# Altium integrated library memory-idt.IntLib: 301 symbols (part 2 of 3)
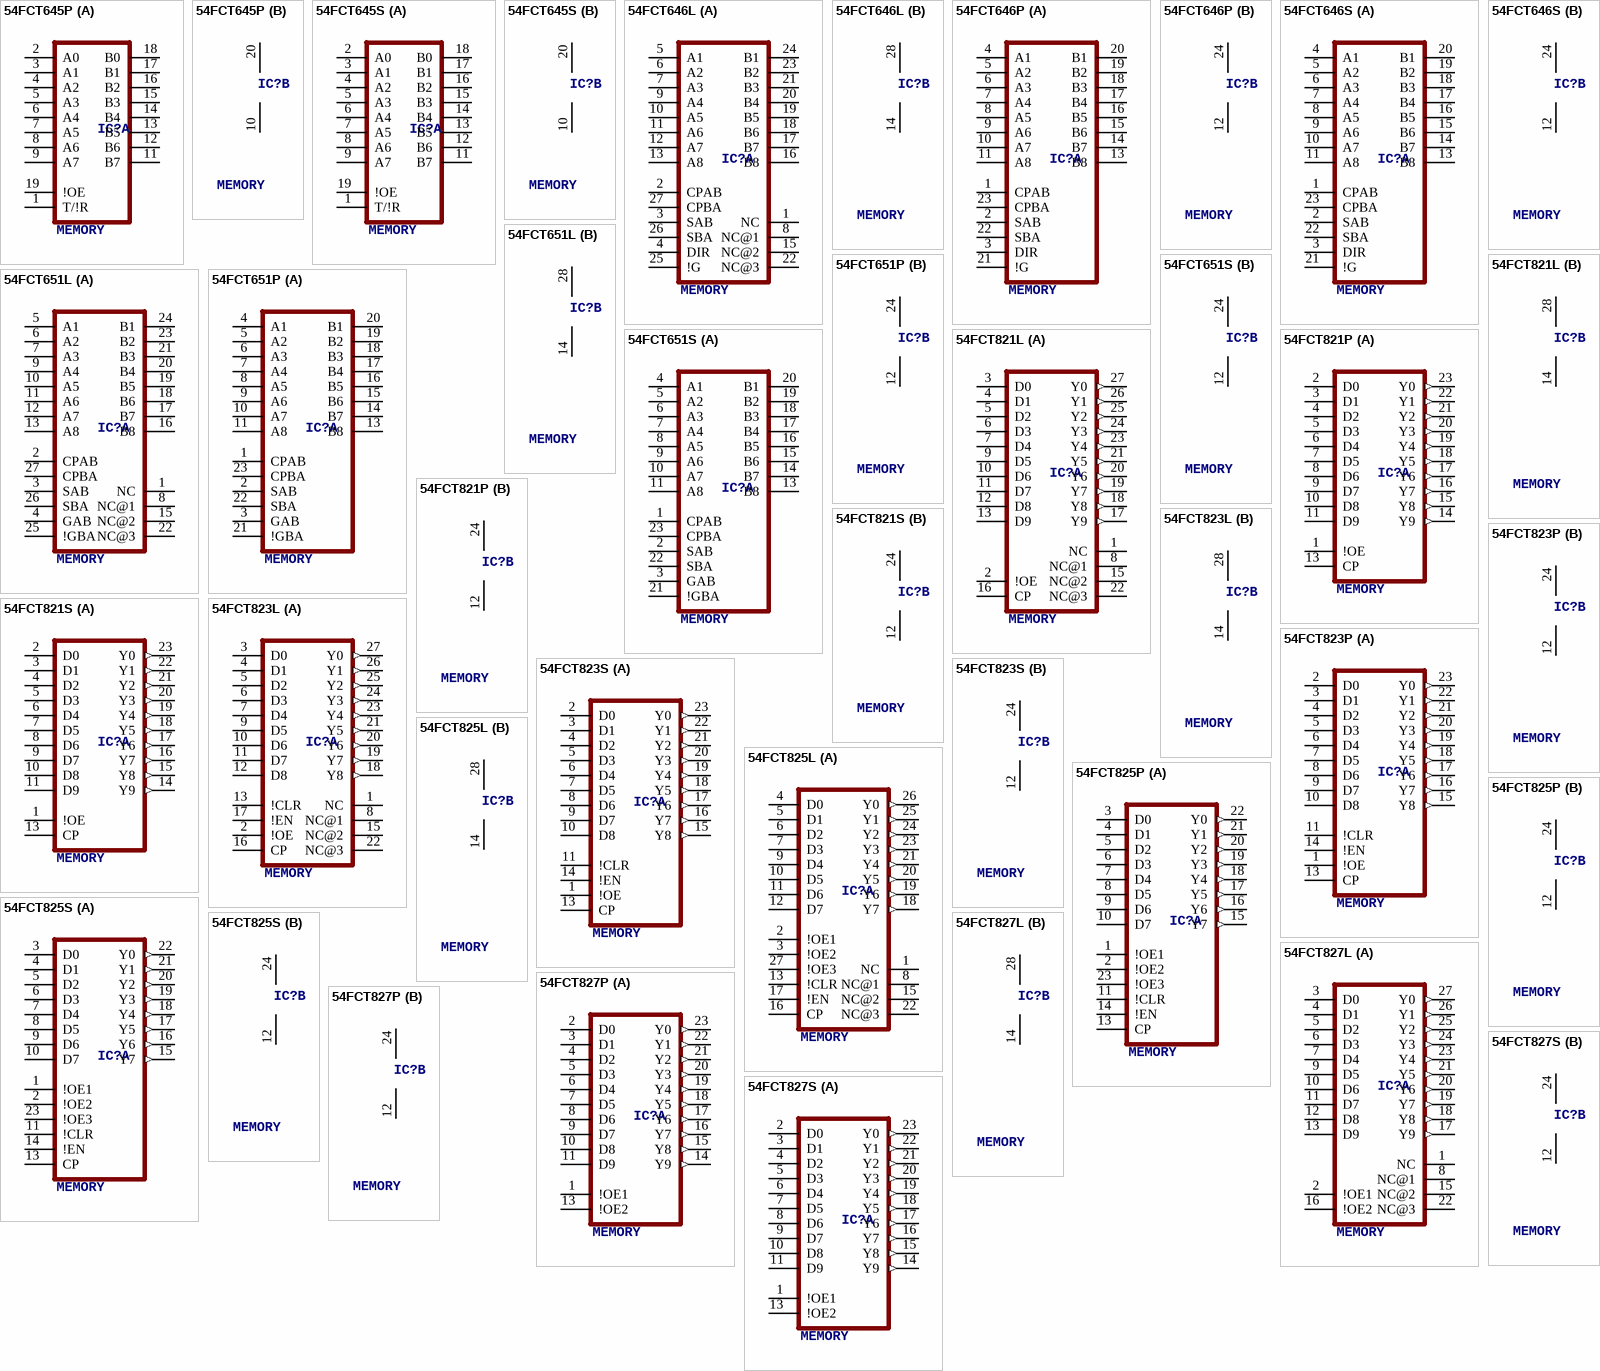
[diagram p21: symbols 54FCT645P to 54FCT827S]

## 54FCT651S
designator IC?, comment MEMORY
OC_FARNELL: unknown; OC_NEWARK: unknown
footprint SO24-2
part A pins: 1 CPAB, 2 SAB, 3 GAB, 4 A1, 5 A2, 6 A3, 7 A4, 8 A5, 9 A6, 10 A7, 11 A8, 13 B8, 14 B7, 15 B6, 16 B5, 17 B4, 18 B3, 19 B2, 20 B1, 21 !GBA, 22 SBA, 23 CPBA
part B pins: 12 GND (power), 24 VCC (power)

## 54FCT821L
designator IC?, comment MEMORY
OC_FARNELL: unknown; OC_NEWARK: unknown
footprint L28-1
part A pins: 1 NC, 2 !OE, 3 D0, 4 D1, 5 D2, 6 D3, 7 D4, 8 NC@1, 9 D5, 10 D6, 11 D7, 12 D8, 13 D9, 15 NC@2, 16 CP, 17 Y9 (out), 18 Y8 (out), 19 Y7 (out), 20 Y6 (out), 21 Y5 (out), 22 NC@3, 23 Y4 (out), 24 Y3 (out), 25 Y2 (out), 26 Y1 (out), 27 Y0 (out)
part B pins: 14 GND (power), 28 VCC (power)

## 54FCT821P
designator IC?, comment MEMORY
OC_FARNELL: unknown; OC_NEWARK: unknown
footprint DIL24-6
part A pins: 1 !OE, 2 D0, 3 D1, 4 D2, 5 D3, 6 D4, 7 D5, 8 D6, 9 D7, 10 D8, 11 D9, 13 CP, 14 Y9 (out), 15 Y8 (out), 16 Y7 (out), 17 Y6 (out), 18 Y5 (out), 19 Y4 (out), 20 Y3 (out), 21 Y2 (out), 22 Y1 (out), 23 Y0 (out)
part B pins: 12 GND (power), 24 VCC (power)

## 54FCT821S
designator IC?, comment MEMORY
OC_FARNELL: unknown; OC_NEWARK: unknown
footprint SO24-2
part A pins: 1 !OE, 2 D0, 3 D1, 4 D2, 5 D3, 6 D4, 7 D5, 8 D6, 9 D7, 10 D8, 11 D9, 13 CP, 14 Y9 (out), 15 Y8 (out), 16 Y7 (out), 17 Y6 (out), 18 Y5 (out), 19 Y4 (out), 20 Y3 (out), 21 Y2 (out), 22 Y1 (out), 23 Y0 (out)
part B pins: 12 GND (power), 24 VCC (power)

## 54FCT823L
designator IC?, comment MEMORY
OC_FARNELL: unknown; OC_NEWARK: unknown
footprint L28-1
part A pins: 1 NC, 2 !OE, 3 D0, 4 D1, 5 D2, 6 D3, 7 D4, 8 NC@1, 9 D5, 10 D6, 11 D7, 12 D8, 13 !CLR, 15 NC@2, 16 CP, 17 !EN, 18 Y8 (out), 19 Y7 (out), 20 Y6 (out), 21 Y5 (out), 22 NC@3, 23 Y4 (out), 24 Y3 (out), 25 Y2 (out), 26 Y1 (out), 27 Y0 (out)
part B pins: 14 GND (power), 28 VCC (power)

## 54FCT823P
designator IC?, comment MEMORY
OC_FARNELL: unknown; OC_NEWARK: unknown
footprint DIL24-6
part A pins: 1 !OE, 2 D0, 3 D1, 4 D2, 5 D3, 6 D4, 7 D5, 8 D6, 9 D7, 10 D8, 11 !CLR, 13 CP, 14 !EN, 15 Y8 (out), 16 Y7 (out), 17 Y6 (out), 18 Y5 (out), 19 Y4 (out), 20 Y3 (out), 21 Y2 (out), 22 Y1 (out), 23 Y0 (out)
part B pins: 12 GND (power), 24 VCC (power)

## 54FCT823S
designator IC?, comment MEMORY
OC_FARNELL: unknown; OC_NEWARK: unknown
footprint SO24-2
part A pins: 1 !OE, 2 D0, 3 D1, 4 D2, 5 D3, 6 D4, 7 D5, 8 D6, 9 D7, 10 D8, 11 !CLR, 13 CP, 14 !EN, 15 Y8 (out), 16 Y7 (out), 17 Y6 (out), 18 Y5 (out), 19 Y4 (out), 20 Y3 (out), 21 Y2 (out), 22 Y1 (out), 23 Y0 (out)
part B pins: 12 GND (power), 24 VCC (power)

## 54FCT825L
designator IC?, comment MEMORY
OC_FARNELL: unknown; OC_NEWARK: unknown
footprint L28-1
part A pins: 1 NC, 2 !OE1, 3 !OE2, 4 D0, 5 D1, 6 D2, 7 D3, 8 NC@1, 9 D4, 10 D5, 11 D6, 12 D7, 13 !CLR, 15 NC@2, 16 CP, 17 !EN, 18 Y7 (out), 19 Y6 (out), 20 Y5 (out), 21 Y4 (out), 22 NC@3, 23 Y3 (out), 24 Y2 (out), 25 Y1 (out), 26 Y0 (out), 27 !OE3
part B pins: 14 GND (power), 28 VCC (power)

## 54FCT825P
designator IC?, comment MEMORY
OC_FARNELL: unknown; OC_NEWARK: unknown
footprint DIL24-6
part A pins: 1 !OE1, 2 !OE2, 3 D0, 4 D1, 5 D2, 6 D3, 7 D4, 8 D5, 9 D6, 10 D7, 11 !CLR, 13 CP, 14 !EN, 15 Y7 (out), 16 Y6 (out), 17 Y5 (out), 18 Y4 (out), 19 Y3 (out), 20 Y2 (out), 21 Y1 (out), 22 Y0 (out), 23 !OE3
part B pins: 12 GND (power), 24 VCC (power)

## 54FCT825S
designator IC?, comment MEMORY
OC_FARNELL: unknown; OC_NEWARK: unknown
footprint SO24-2
part A pins: 1 !OE1, 2 !OE2, 3 D0, 4 D1, 5 D2, 6 D3, 7 D4, 8 D5, 9 D6, 10 D7, 11 !CLR, 13 CP, 14 !EN, 15 Y7 (out), 16 Y6 (out), 17 Y5 (out), 18 Y4 (out), 19 Y3 (out), 20 Y2 (out), 21 Y1 (out), 22 Y0 (out), 23 !OE3
part B pins: 12 GND (power), 24 VCC (power)

## 54FCT827L
designator IC?, comment MEMORY
OC_FARNELL: unknown; OC_NEWARK: unknown
footprint L28-1
part A pins: 1 NC, 2 !OE1, 3 D0, 4 D1, 5 D2, 6 D3, 7 D4, 8 NC@1, 9 D5, 10 D6, 11 D7, 12 D8, 13 D9, 15 NC@2, 16 !OE2, 17 Y9 (out), 18 Y8 (out), 19 Y7 (out), 20 Y6 (out), 21 Y5 (out), 22 NC@3, 23 Y4 (out), 24 Y3 (out), 25 Y2 (out), 26 Y1 (out), 27 Y0 (out)
part B pins: 14 GND (power), 28 VCC (power)

## 54FCT827P
designator IC?, comment MEMORY
OC_FARNELL: unknown; OC_NEWARK: unknown
footprint DIL24-6
part A pins: 1 !OE1, 2 D0, 3 D1, 4 D2, 5 D3, 6 D4, 7 D5, 8 D6, 9 D7, 10 D8, 11 D9, 13 !OE2, 14 Y9 (out), 15 Y8 (out), 16 Y7 (out), 17 Y6 (out), 18 Y5 (out), 19 Y4 (out), 20 Y3 (out), 21 Y2 (out), 22 Y1 (out), 23 Y0 (out)
part B pins: 12 GND (power), 24 VCC (power)

## 54FCT827S
designator IC?, comment MEMORY
OC_FARNELL: unknown; OC_NEWARK: unknown
footprint SO24-2
part A pins: 1 !OE1, 2 D0, 3 D1, 4 D2, 5 D3, 6 D4, 7 D5, 8 D6, 9 D7, 10 D8, 11 D9, 13 !OE2, 14 Y9 (out), 15 Y8 (out), 16 Y7 (out), 17 Y6 (out), 18 Y5 (out), 19 Y4 (out), 20 Y3 (out), 21 Y2 (out), 22 Y1 (out), 23 Y0 (out)
part B pins: 12 GND (power), 24 VCC (power)

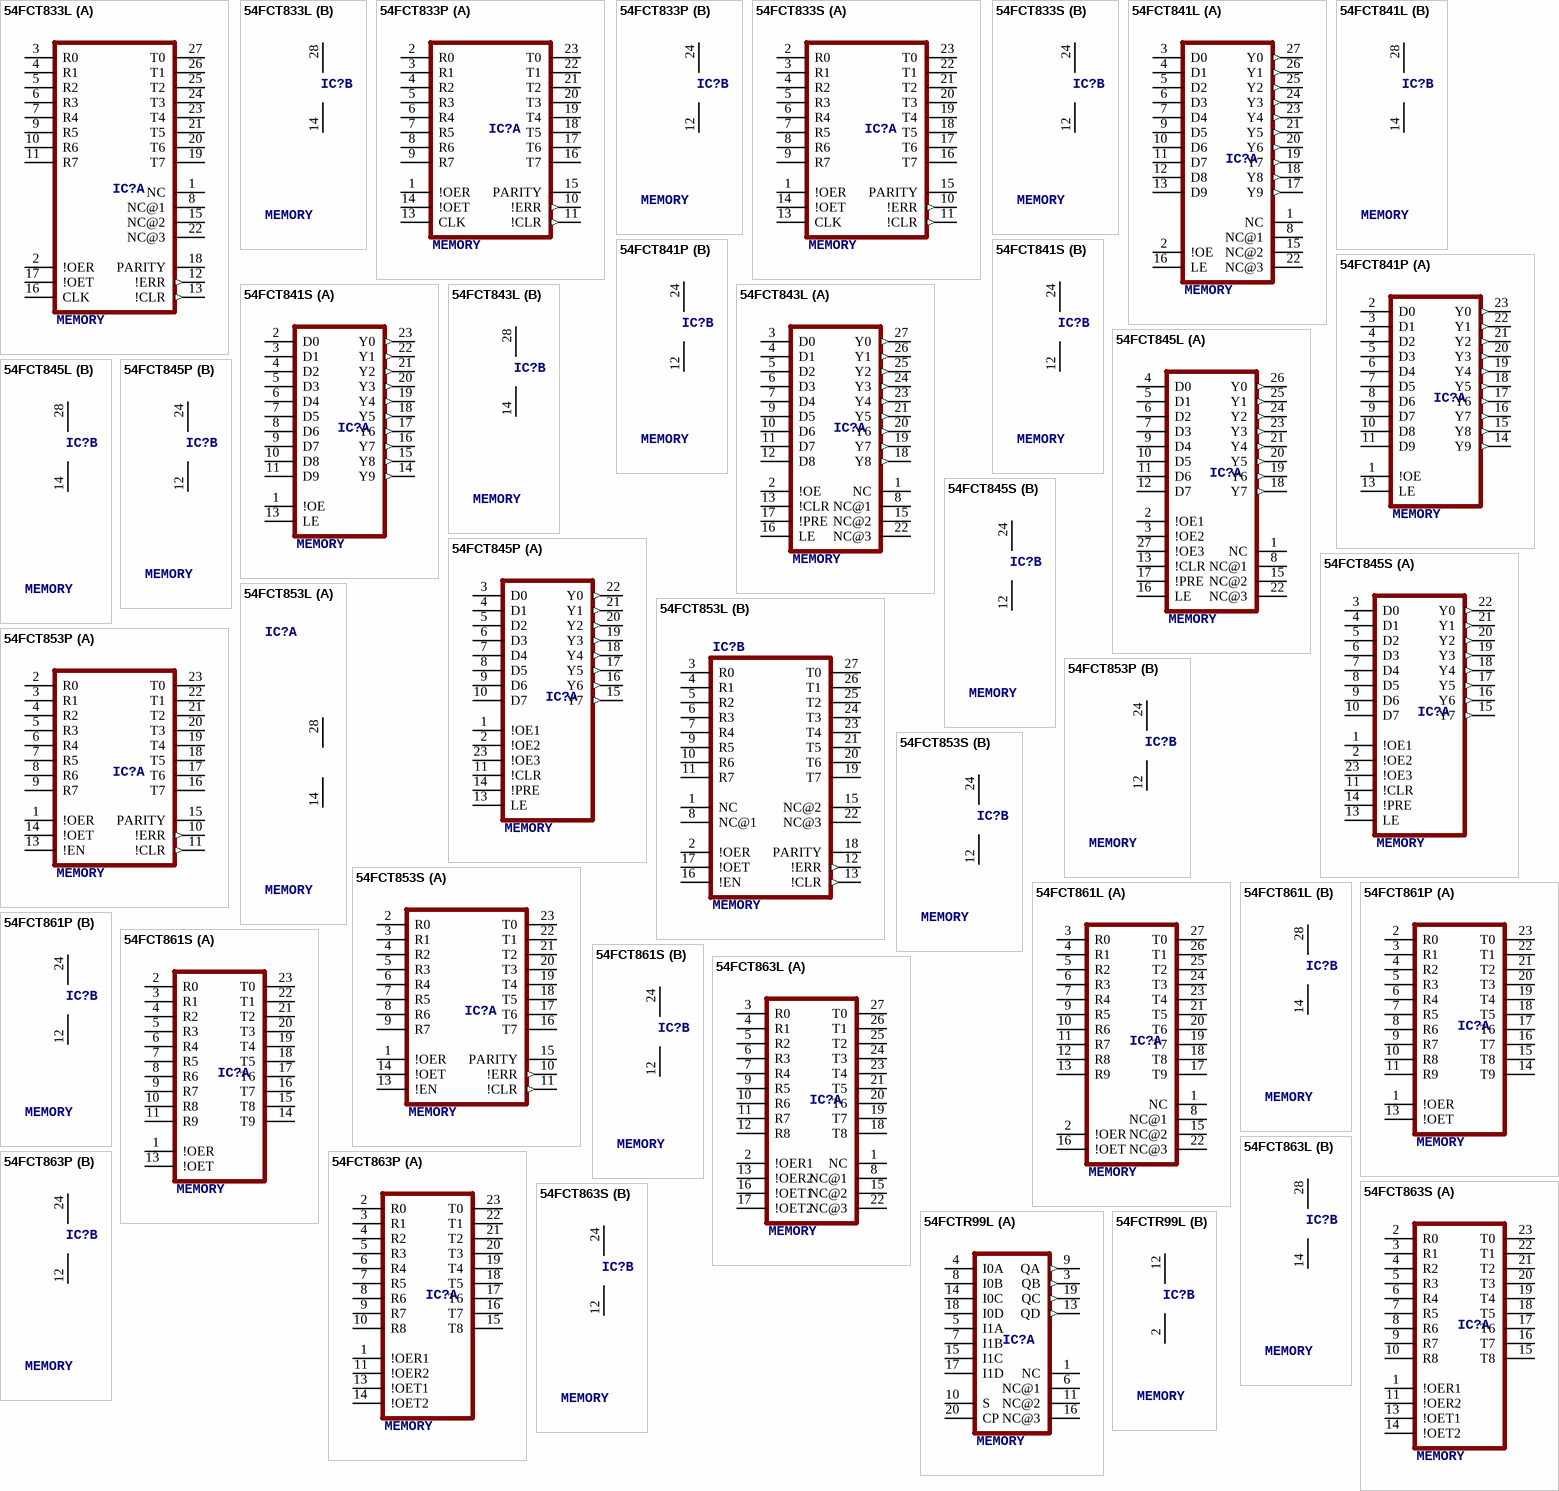
[diagram p9: symbols 54FCT833L to 54FCTR99L]

## 54FCT833L
designator IC?, comment MEMORY
OC_FARNELL: unknown; OC_NEWARK: unknown
footprint L28-1
part A pins: 1 NC, 2 !OER, 3 R0, 4 R1, 5 R2, 6 R3, 7 R4, 8 NC@1, 9 R5, 10 R6, 11 R7, 12 !ERR (out), 13 !CLR (out), 15 NC@2, 16 CLK, 17 !OET, 18 PARITY, 19 T7, 20 T6, 21 T5, 22 NC@3, 23 T4, 24 T3, 25 T2, 26 T1, 27 T0
part B pins: 14 GND (power), 28 VCC (power)

## 54FCT833P
designator IC?, comment MEMORY
OC_FARNELL: unknown; OC_NEWARK: unknown
footprint DIL24-6
part A pins: 1 !OER, 2 R0, 3 R1, 4 R2, 5 R3, 6 R4, 7 R5, 8 R6, 9 R7, 10 !ERR (out), 11 !CLR (out), 13 CLK, 14 !OET, 15 PARITY, 16 T7, 17 T6, 18 T5, 19 T4, 20 T3, 21 T2, 22 T1, 23 T0
part B pins: 12 GND (power), 24 VCC (power)

## 54FCT833S
designator IC?, comment MEMORY
OC_FARNELL: unknown; OC_NEWARK: unknown
footprint SO24-2
part A pins: 1 !OER, 2 R0, 3 R1, 4 R2, 5 R3, 6 R4, 7 R5, 8 R6, 9 R7, 10 !ERR (out), 11 !CLR (out), 13 CLK, 14 !OET, 15 PARITY, 16 T7, 17 T6, 18 T5, 19 T4, 20 T3, 21 T2, 22 T1, 23 T0
part B pins: 12 GND (power), 24 VCC (power)

## 54FCT841L
designator IC?, comment MEMORY
OC_FARNELL: unknown; OC_NEWARK: unknown
footprint L28-1
part A pins: 1 NC, 2 !OE, 3 D0, 4 D1, 5 D2, 6 D3, 7 D4, 8 NC@1, 9 D5, 10 D6, 11 D7, 12 D8, 13 D9, 15 NC@2, 16 LE, 17 Y9 (out), 18 Y8 (out), 19 Y7 (out), 20 Y6 (out), 21 Y5 (out), 22 NC@3, 23 Y4 (out), 24 Y3 (out), 25 Y2 (out), 26 Y1 (out), 27 Y0 (out)
part B pins: 14 GND (power), 28 VCC (power)

## 54FCT841P
designator IC?, comment MEMORY
OC_FARNELL: unknown; OC_NEWARK: unknown
footprint DIL24-6
part A pins: 1 !OE, 2 D0, 3 D1, 4 D2, 5 D3, 6 D4, 7 D5, 8 D6, 9 D7, 10 D8, 11 D9, 13 LE, 14 Y9 (out), 15 Y8 (out), 16 Y7 (out), 17 Y6 (out), 18 Y5 (out), 19 Y4 (out), 20 Y3 (out), 21 Y2 (out), 22 Y1 (out), 23 Y0 (out)
part B pins: 12 GND (power), 24 VCC (power)

## 54FCT841S
designator IC?, comment MEMORY
OC_FARNELL: unknown; OC_NEWARK: unknown
footprint SO24-2
part A pins: 1 !OE, 2 D0, 3 D1, 4 D2, 5 D3, 6 D4, 7 D5, 8 D6, 9 D7, 10 D8, 11 D9, 13 LE, 14 Y9 (out), 15 Y8 (out), 16 Y7 (out), 17 Y6 (out), 18 Y5 (out), 19 Y4 (out), 20 Y3 (out), 21 Y2 (out), 22 Y1 (out), 23 Y0 (out)
part B pins: 12 GND (power), 24 VCC (power)

## 54FCT843L
designator IC?, comment MEMORY
OC_FARNELL: unknown; OC_NEWARK: unknown
footprint L28-1
part A pins: 1 NC, 2 !OE, 3 D0, 4 D1, 5 D2, 6 D3, 7 D4, 8 NC@1, 9 D5, 10 D6, 11 D7, 12 D8, 13 !CLR, 15 NC@2, 16 LE, 17 !PRE, 18 Y8 (out), 19 Y7 (out), 20 Y6 (out), 21 Y5 (out), 22 NC@3, 23 Y4 (out), 24 Y3 (out), 25 Y2 (out), 26 Y1 (out), 27 Y0 (out)
part B pins: 14 GND (power), 28 VCC (power)

## 54FCT845L
designator IC?, comment MEMORY
OC_FARNELL: unknown; OC_NEWARK: unknown
footprint L28-1
part A pins: 1 NC, 2 !OE1, 3 !OE2, 4 D0, 5 D1, 6 D2, 7 D3, 8 NC@1, 9 D4, 10 D5, 11 D6, 12 D7, 13 !CLR, 15 NC@2, 16 LE, 17 !PRE, 18 Y7 (out), 19 Y6 (out), 20 Y5 (out), 21 Y4 (out), 22 NC@3, 23 Y3 (out), 24 Y2 (out), 25 Y1 (out), 26 Y0 (out), 27 !OE3
part B pins: 14 GND (power), 28 VCC (power)

## 54FCT845P
designator IC?, comment MEMORY
OC_FARNELL: unknown; OC_NEWARK: unknown
footprint DIL24-6
part A pins: 1 !OE1, 2 !OE2, 3 D0, 4 D1, 5 D2, 6 D3, 7 D4, 8 D5, 9 D6, 10 D7, 11 !CLR, 13 LE, 14 !PRE, 15 Y7 (out), 16 Y6 (out), 17 Y5 (out), 18 Y4 (out), 19 Y3 (out), 20 Y2 (out), 21 Y1 (out), 22 Y0 (out), 23 !OE3
part B pins: 12 GND (power), 24 VCC (power)

## 54FCT845S
designator IC?, comment MEMORY
OC_FARNELL: unknown; OC_NEWARK: unknown
footprint SO24-2
part A pins: 1 !OE1, 2 !OE2, 3 D0, 4 D1, 5 D2, 6 D3, 7 D4, 8 D5, 9 D6, 10 D7, 11 !CLR, 13 LE, 14 !PRE, 15 Y7 (out), 16 Y6 (out), 17 Y5 (out), 18 Y4 (out), 19 Y3 (out), 20 Y2 (out), 21 Y1 (out), 22 Y0 (out), 23 !OE3
part B pins: 12 GND (power), 24 VCC (power)

## 54FCT853L
designator IC?, comment MEMORY
OC_FARNELL: unknown; OC_NEWARK: unknown
footprint L28-1
part A pins: 14 GND (power), 28 VCC (power)
part B pins: 1 NC, 2 !OER, 3 R0, 4 R1, 5 R2, 6 R3, 7 R4, 8 NC@1, 9 R5, 10 R6, 11 R7, 12 !ERR (out), 13 !CLR (out), 15 NC@2, 16 !EN, 17 !OET, 18 PARITY, 19 T7, 20 T6, 21 T5, 22 NC@3, 23 T4, 24 T3, 25 T2, 26 T1, 27 T0

## 54FCT853P
designator IC?, comment MEMORY
OC_FARNELL: unknown; OC_NEWARK: unknown
footprint DIL24-6
part A pins: 1 !OER, 2 R0, 3 R1, 4 R2, 5 R3, 6 R4, 7 R5, 8 R6, 9 R7, 10 !ERR (out), 11 !CLR (out), 13 !EN, 14 !OET, 15 PARITY, 16 T7, 17 T6, 18 T5, 19 T4, 20 T3, 21 T2, 22 T1, 23 T0
part B pins: 12 GND (power), 24 VCC (power)

## 54FCT853S
designator IC?, comment MEMORY
OC_FARNELL: unknown; OC_NEWARK: unknown
footprint SO24-2
part A pins: 1 !OER, 2 R0, 3 R1, 4 R2, 5 R3, 6 R4, 7 R5, 8 R6, 9 R7, 10 !ERR (out), 11 !CLR (out), 13 !EN, 14 !OET, 15 PARITY, 16 T7, 17 T6, 18 T5, 19 T4, 20 T3, 21 T2, 22 T1, 23 T0
part B pins: 12 GND (power), 24 VCC (power)

## 54FCT861L
designator IC?, comment MEMORY
OC_FARNELL: unknown; OC_NEWARK: unknown
footprint L28-1
part A pins: 1 NC, 2 !OER, 3 R0, 4 R1, 5 R2, 6 R3, 7 R4, 8 NC@1, 9 R5, 10 R6, 11 R7, 12 R8, 13 R9, 15 NC@2, 16 !OET, 17 T9, 18 T8, 19 T7, 20 T6, 21 T5, 22 NC@3, 23 T4, 24 T3, 25 T2, 26 T1, 27 T0
part B pins: 14 GND (power), 28 VCC (power)

## 54FCT861P
designator IC?, comment MEMORY
OC_FARNELL: unknown; OC_NEWARK: unknown
footprint DIL24-6
part A pins: 1 !OER, 2 R0, 3 R1, 4 R2, 5 R3, 6 R4, 7 R5, 8 R6, 9 R7, 10 R8, 11 R9, 13 !OET, 14 T9, 15 T8, 16 T7, 17 T6, 18 T5, 19 T4, 20 T3, 21 T2, 22 T1, 23 T0
part B pins: 12 GND (power), 24 VCC (power)

## 54FCT861S
designator IC?, comment MEMORY
OC_FARNELL: unknown; OC_NEWARK: unknown
footprint SO24-2
part A pins: 1 !OER, 2 R0, 3 R1, 4 R2, 5 R3, 6 R4, 7 R5, 8 R6, 9 R7, 10 R8, 11 R9, 13 !OET, 14 T9, 15 T8, 16 T7, 17 T6, 18 T5, 19 T4, 20 T3, 21 T2, 22 T1, 23 T0
part B pins: 12 GND (power), 24 VCC (power)

## 54FCT863L
designator IC?, comment MEMORY
OC_FARNELL: unknown; OC_NEWARK: unknown
footprint L28-1
part A pins: 1 NC, 2 !OER1, 3 R0, 4 R1, 5 R2, 6 R3, 7 R4, 8 NC@1, 9 R5, 10 R6, 11 R7, 12 R8, 13 !OER2, 15 NC@2, 16 !OET1, 17 !OET2, 18 T8, 19 T7, 20 T6, 21 T5, 22 NC@3, 23 T4, 24 T3, 25 T2, 26 T1, 27 T0
part B pins: 14 GND (power), 28 VCC (power)

## 54FCT863P
designator IC?, comment MEMORY
OC_FARNELL: unknown; OC_NEWARK: unknown
footprint DIL24-6
part A pins: 1 !OER1, 2 R0, 3 R1, 4 R2, 5 R3, 6 R4, 7 R5, 8 R6, 9 R7, 10 R8, 11 !OER2, 13 !OET1, 14 !OET2, 15 T8, 16 T7, 17 T6, 18 T5, 19 T4, 20 T3, 21 T2, 22 T1, 23 T0
part B pins: 12 GND (power), 24 VCC (power)

## 54FCT863S
designator IC?, comment MEMORY
OC_FARNELL: unknown; OC_NEWARK: unknown
footprint SO24-2
part A pins: 1 !OER1, 2 R0, 3 R1, 4 R2, 5 R3, 6 R4, 7 R5, 8 R6, 9 R7, 10 R8, 11 !OER2, 13 !OET1, 14 !OET2, 15 T8, 16 T7, 17 T6, 18 T5, 19 T4, 20 T3, 21 T2, 22 T1, 23 T0
part B pins: 12 GND (power), 24 VCC (power)

## 54FCTR99L
designator IC?, comment MEMORY
OC_FARNELL: unknown; OC_NEWARK: unknown
footprint L20-2
part A pins: 1 NC, 3 QB (out), 4 I0A, 5 I1A, 6 NC@1, 7 I1B, 8 I0B, 9 QA (out), 10 S, 11 NC@2, 13 QD (out), 14 I0C, 15 I1C, 16 NC@3, 17 I1D, 18 I0D, 19 QC (out), 20 CP
part B pins: 2 GND (power), 12 VCC (power)

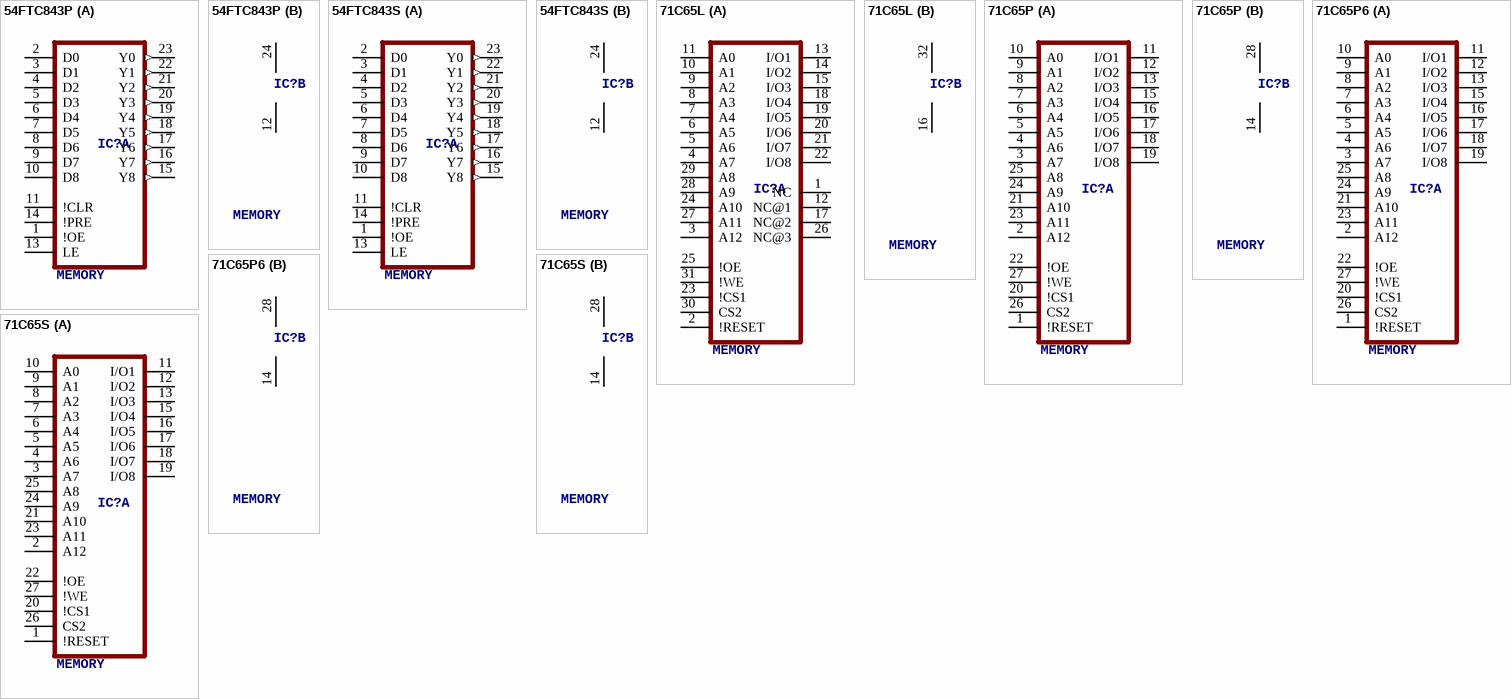
[diagram p10: symbols 54FTC843P to 71C65S]

## 54FTC843P
designator IC?, comment MEMORY
OC_FARNELL: unknown; OC_NEWARK: unknown
footprint DIL24-6
part A pins: 1 !OE, 2 D0, 3 D1, 4 D2, 5 D3, 6 D4, 7 D5, 8 D6, 9 D7, 10 D8, 11 !CLR, 13 LE, 14 !PRE, 15 Y8 (out), 16 Y7 (out), 17 Y6 (out), 18 Y5 (out), 19 Y4 (out), 20 Y3 (out), 21 Y2 (out), 22 Y1 (out), 23 Y0 (out)
part B pins: 12 GND (power), 24 VCC (power)

## 54FTC843S
designator IC?, comment MEMORY
OC_FARNELL: unknown; OC_NEWARK: unknown
footprint SO24-2
part A pins: 1 !OE, 2 D0, 3 D1, 4 D2, 5 D3, 6 D4, 7 D5, 8 D6, 9 D7, 10 D8, 11 !CLR, 13 LE, 14 !PRE, 15 Y8 (out), 16 Y7 (out), 17 Y6 (out), 18 Y5 (out), 19 Y4 (out), 20 Y3 (out), 21 Y2 (out), 22 Y1 (out), 23 Y0 (out)
part B pins: 12 GND (power), 24 VCC (power)

## 71C65L
designator IC?, comment MEMORY
OC_FARNELL: unknown; OC_NEWARK: unknown
footprint L32-1
part A pins: 1 NC, 2 !RESET, 3 A12, 4 A7, 5 A6, 6 A5, 7 A4, 8 A3, 9 A2, 10 A1, 11 A0, 12 NC@1, 13 I/O1, 14 I/O2, 15 I/O3, 17 NC@2, 18 I/O4, 19 I/O5, 20 I/O6, 21 I/O7, 22 I/O8, 23 !CS1, 24 A10, 25 !OE, 26 NC@3, 27 A11, 28 A9, 29 A8, 30 CS2, 31 !WE
part B pins: 16 GND (power), 32 VCC (power)

## 71C65P
designator IC?, comment MEMORY
OC_FARNELL: unknown; OC_NEWARK: unknown
footprint DIL28-6
part A pins: 1 !RESET, 2 A12, 3 A7, 4 A6, 5 A5, 6 A4, 7 A3, 8 A2, 9 A1, 10 A0, 11 I/O1, 12 I/O2, 13 I/O3, 15 I/O4, 16 I/O5, 17 I/O6, 18 I/O7, 19 I/O8, 20 !CS1, 21 A10, 22 !OE, 23 A11, 24 A9, 25 A8, 26 CS2, 27 !WE
part B pins: 14 GND (power), 28 VCC (power)

## 71C65P6
designator IC?, comment MEMORY
OC_FARNELL: unknown; OC_NEWARK: unknown
footprint DIL28-3
part A pins: 1 !RESET, 2 A12, 3 A7, 4 A6, 5 A5, 6 A4, 7 A3, 8 A2, 9 A1, 10 A0, 11 I/O1, 12 I/O2, 13 I/O3, 15 I/O4, 16 I/O5, 17 I/O6, 18 I/O7, 19 I/O8, 20 !CS1, 21 A10, 22 !OE, 23 A11, 24 A9, 25 A8, 26 CS2, 27 !WE
part B pins: 14 GND (power), 28 VCC (power)

## 71C65S
designator IC?, comment MEMORY
OC_FARNELL: unknown; OC_NEWARK: unknown
footprint SO28-3
part A pins: 1 !RESET, 2 A12, 3 A7, 4 A6, 5 A5, 6 A4, 7 A3, 8 A2, 9 A1, 10 A0, 11 I/O1, 12 I/O2, 13 I/O3, 15 I/O4, 16 I/O5, 17 I/O6, 18 I/O7, 19 I/O8, 20 !CS1, 21 A10, 22 !OE, 23 A11, 24 A9, 25 A8, 26 CS2, 27 !WE
part B pins: 14 GND (power), 28 VCC (power)

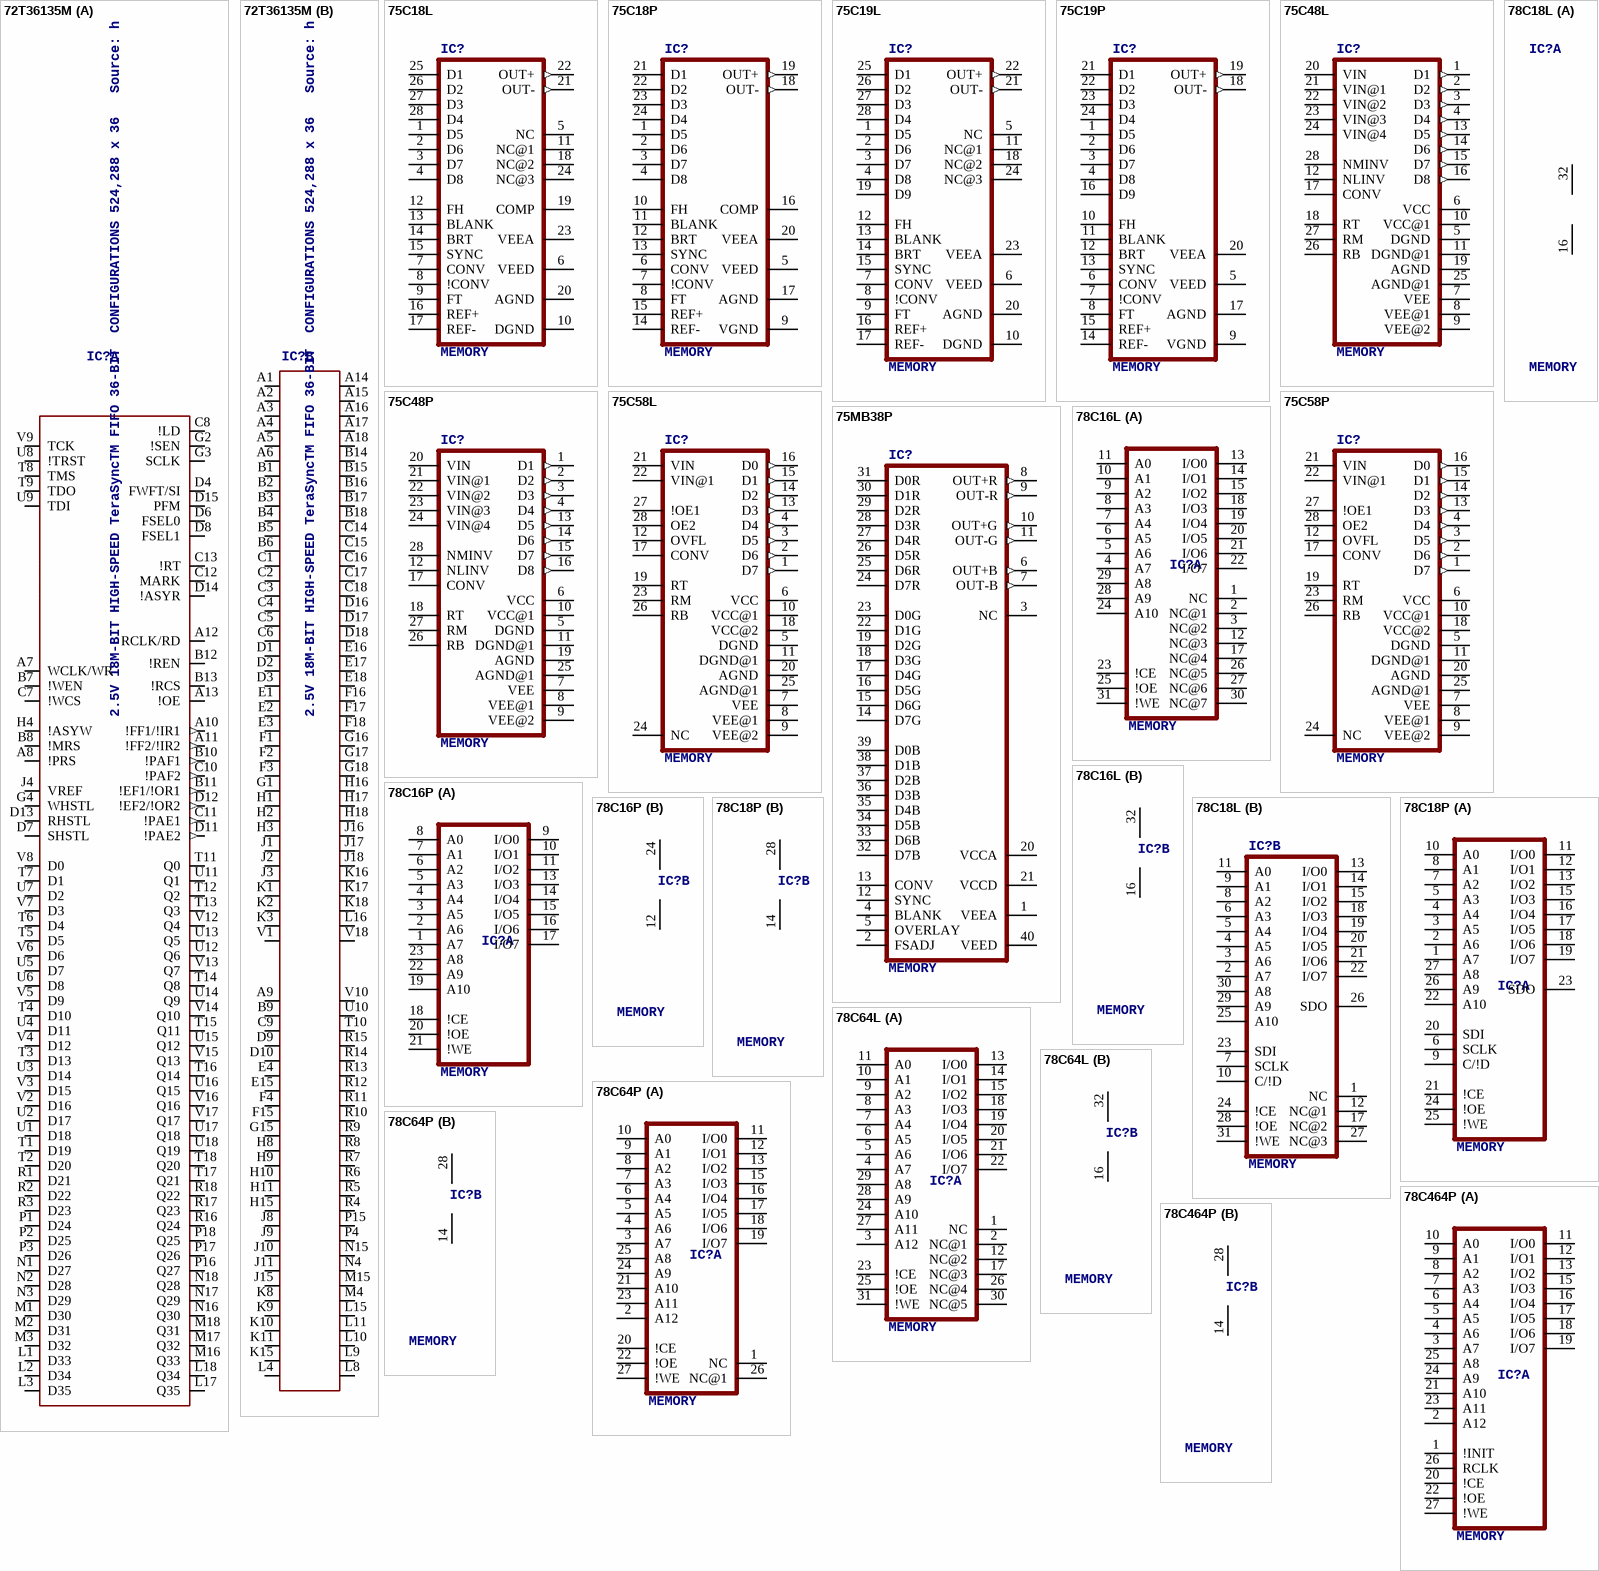
[diagram p11: symbols 72T36135M to 78C464P]

## 72T36135M
designator IC?, comment 2.5V 18M-BIT HIGH-SPEED TeraSyncTM FIFO 36-BIT  CONFIGURATIONS 524,288 x 36   Source: http://www.idt.com/products/files/4613033/72T36135M_DS.pdf
OC_FARNELL: unknown; OC_NEWARK: unknown
footprint BGA240
part A pins: A7 WCLK/WR, A8 !PRS, A10 !FF1/!IR1 (out), A11 !FF2/!IR2 (out), A12 RCLK/RD, A13 !OE, B7 !WEN, B8 !MRS, B10 !PAF1 (out), B11 !EF1/!OR1 (out), B12 !REN, B13 !RCS, C7 !WCS, C8 !LD, C10 !PAF2 (out), C11 !PAE1 (out), C12 MARK, C13 !RT, D4 FWFT/SI, D5 DNC@1, D6 FSEL0, D7 SHSTL, D8 FSEL1, D11 !PAE2 (out), D12 !EF2/!OR2 (out), D13 RHSTL, D14 !ASYR, D15 PFM, G2 !SEN, G3 SCLK, G4 WHSTL, H4 !ASYW, J4 VREF, K4 DNC@2, L1 D33, L2 D34, L3 D35, L17 Q35 (hiz), L18 Q34 (hiz), M1 D30, M2 D31, M3 D32, M16 Q33 (hiz), M17 Q32 (hiz), M18 Q31 (hiz), N1 D27, N2 D28, N3 D29, N16 Q30 (hiz), N17 Q29 (hiz), N18 Q28 (hiz), P1 D24, P2 D25, P3 D26, P16 Q27 (hiz), P17 Q26 (hiz), P18 Q25 (hiz), R1 D21, R2 D22, R3 D23, R16 Q24 (hiz), R17 Q23 (hiz), R18 Q22 (hiz), T1 D19, T2 D20, T3 D13, T4 D10, T5 D5, T6 D4, T7 D1, T8 TMS, T9 TDO, T11 Q0 (hiz), T12 Q2 (hiz), T13 Q3 (hiz), T14 Q8 (hiz), T15 Q11 (hiz), T16 Q14 (hiz), T17 Q21 (hiz), T18 Q20 (hiz), U1 D18, U2 D17, U3 D14, U4 D11, U5 D7, U6 D8, U7 D2, U8 !TRST, U9 TDI, U11 Q1 (hiz), U12 Q6 (hiz), U13 Q5 (hiz), U14 Q9 (hiz), U15 Q12 (hiz), U16 Q15 (hiz), U17 Q18 (hiz), U18 Q19 (hiz), V2 D16, V3 D15, V4 D12, V5 D9, V6 D6, V7 D3, V8 D0, V9 TCK, V11 DNC@3, V12 Q4 (hiz), V13 Q7 (hiz), V14 Q10 (hiz), V15 Q13 (hiz), V16 Q16 (hiz), V17 Q17 (hiz)
part B pins: A1 VCC@1 (power), A2 VCC@2 (power), A3 VCC@3 (power), A4 VCC@4 (power), A5 VCC@5 (power), A6 VCC@6 (power), A9 GND@1 (power), A14 VDDQ@1 (power), A15 VDDQ@2 (power), A16 VDDQ@3 (power), A17 VDDQ@4 (power), A18 VDDQ@5 (power), B1 VCC@7 (power), B2 VCC@8 (power), B3 VCC@9 (power), B4 VCC@10 (power), B5 VCC@11 (power), B6 VCC@12 (power), B9 GND@2 (power), B14 VDDQ@6 (power), B15 VDDQ@7 (power), B16 VDDQ@8 (power), B17 VDDQ@9 (power), B18 VDDQ@10 (power), C1 VCC@13 (power), C2 VCC@14 (power), C3 VCC@15 (power), C4 VCC@16 (power), C5 VCC@17 (power), C6 VCC@18 (power), C9 GND@3 (power), C14 VDDQ@11 (power), C15 VDDQ@12 (power), C16 VDDQ@13 (power), C17 VDDQ@14 (power), C18 VDDQ@15 (power), D1 VCC@19 (power), D2 VCC@20 (power), D3 VCC@21 (power), D9 GND@4 (power), D10 GND@5 (power), D16 VDDQ@16 (power), D17 VDDQ@17 (power), D18 VDDQ@18 (power), E1 VCC@22 (power), E2 VCC@23 (power), E3 VCC@24 (power), E4 GND@6 (power), E15 GND@7 (power), E16 VDDQ@19 (power), E17 VDDQ@20 (power), E18 VDDQ@21 (power), F1 VCC@25 (power), F2 VCC@26 (power), F3 VCC@27 (power), F4 GND@8 (power), F15 GND@9 (power), F16 VDDQ@22 (power), F17 VDDQ@23 (power), F18 VDDQ@24 (power), G1 VCC@28 (power), G15 GND@10 (power), G16 VDDQ@25 (power), G17 VDDQ@26 (power), G18 VDDQ@27 (power), H1 VCC@29 (power), H2 VCC@30 (power), H3 VCC@31 (power), H8 GND@11 (power), H9 GND@12 (power), H10 GND@13 (power), H11 GND@14 (power), H15 GND@15 (power), H16 VDDQ@28 (power), H17 VDDQ@29 (power), H18 VDDQ@30 (power), J1 VCC@32 (power), J2 VCC@33 (power), J3 VCC@34 (power), J8 GND@16 (power), J9 GND@17 (power), J10 GND@18 (power), J11 GND@19 (power), J15 GND@20 (power), J16 VDDQ@31 (power), J17 VDDQ@32 (power), J18 VDDQ@33 (power), K1 VCC@35 (power), K2 VCC@36 (power), K3 VCC@37 (power), K8 GND@21 (power), K9 GND@22 (power), K10 GND@23 (power), K11 GND@24 (power), K15 GND@25 (power), K16 VDDQ@34 (power), K17 VDDQ@35 (power), K18 VDDQ@36 (power), L4 GND@26 (power), L8 GND@27 (power), L9 GND@28 (power), L10 GND@29 (power), L11 GND@30 (power), L15 GND@31 (power), L16 VDDQ@37 (power), M4 GND@32 (power), M15 GND@33 (power), N4 GND@34 (power), N15 GND@35 (power), P4 GND@36 (power), P15 GND@37 (power), R4 GND@38 (power), R5 GND@39 (power), R6 GND@40 (power), R7 GND@41 (power), R8 GND@42 (power), R9 GND@43 (power), R10 GND@44 (power), R11 GND@45 (power), R12 GND@46 (power), R13 GND@47 (power), R14 GND@48 (power), R15 GND@49 (power), T10 GND@50 (power), U10 GND@51 (power), V1 VCC@38 (power), V10 GND@52 (power), V18 VDDQ@38 (power)

## 75C18L
designator IC?, comment MEMORY
OC_FARNELL: unknown; OC_NEWARK: unknown
footprint L28-1
pins: 1 D5, 2 D6, 3 D7, 4 D8, 5 NC, 6 VEED (power), 7 CONV, 8 !CONV, 9 FT, 10 DGND (power), 11 NC@1, 12 FH, 13 BLANK, 14 BRT, 15 SYNC, 16 REF+, 17 REF-, 18 NC@2, 19 COMP, 20 AGND (power), 21 OUT- (out), 22 OUT+ (out), 23 VEEA (power), 24 NC@3, 25 D1, 26 D2, 27 D3, 28 D4

## 75C18P
designator IC?, comment MEMORY
OC_FARNELL: unknown; OC_NEWARK: unknown
footprint DIL24-6
pins: 1 D5, 2 D6, 3 D7, 4 D8, 5 VEED (power), 6 CONV, 7 !CONV, 8 FT, 9 VGND (power), 10 FH, 11 BLANK, 12 BRT, 13 SYNC, 14 REF-, 15 REF+, 16 COMP, 17 AGND (power), 18 OUT- (out), 19 OUT+ (out), 20 VEEA (power), 21 D1, 22 D2, 23 D3, 24 D4

## 75C19L
designator IC?, comment MEMORY
OC_FARNELL: unknown; OC_NEWARK: unknown
footprint L28-1
pins: 1 D5, 2 D6, 3 D7, 4 D8, 5 NC, 6 VEED (power), 7 CONV, 8 !CONV, 9 FT, 10 DGND (power), 11 NC@1, 12 FH, 13 BLANK, 14 BRT, 15 SYNC, 16 REF+, 17 REF-, 18 NC@2, 19 D9, 20 AGND (power), 21 OUT- (out), 22 OUT+ (out), 23 VEEA (power), 24 NC@3, 25 D1, 26 D2, 27 D3, 28 D4

## 75C19P
designator IC?, comment MEMORY
OC_FARNELL: unknown; OC_NEWARK: unknown
footprint DIL24-6
pins: 1 D5, 2 D6, 3 D7, 4 D8, 5 VEED (power), 6 CONV, 7 !CONV, 8 FT, 9 VGND (power), 10 FH, 11 BLANK, 12 BRT, 13 SYNC, 14 REF-, 15 REF+, 16 D9, 17 AGND (power), 18 OUT- (out), 19 OUT+ (out), 20 VEEA, 21 D1, 22 D2, 23 D3, 24 D4

## 75C48L
designator IC?, comment MEMORY
OC_FARNELL: unknown; OC_NEWARK: unknown
footprint L28-1
pins: 1 D1 (out), 2 D2 (out), 3 D3 (out), 4 D4 (out), 5 DGND (power), 6 VCC (power), 7 VEE (power), 8 VEE@1 (power), 9 VEE@2 (power), 10 VCC@1 (power), 11 DGND@1 (power), 12 NLINV, 13 D5 (out), 14 D6 (out), 15 D7 (out), 16 D8 (out), 17 CONV, 18 RT, 19 AGND (power), 20 VIN, 21 VIN@1, 22 VIN@2, 23 VIN@3, 24 VIN@4, 25 AGND@1 (power), 26 RB, 27 RM, 28 NMINV

## 75C48P
designator IC?, comment MEMORY
OC_FARNELL: unknown; OC_NEWARK: unknown
footprint DIL28-6
pins: 1 D1 (out), 2 D2 (out), 3 D3 (out), 4 D4 (out), 5 DGND (power), 6 VCC (power), 7 VEE (power), 8 VEE@1 (power), 9 VEE@2 (power), 10 VCC@1 (power), 11 DGND@1 (power), 12 NLINV, 13 D5 (out), 14 D6 (out), 15 D7 (out), 16 D8 (out), 17 CONV, 18 RT, 19 AGND (power), 20 VIN, 21 VIN@1, 22 VIN@2, 23 VIN@3, 24 VIN@4, 25 AGND@1 (power), 26 RB, 27 RM, 28 NMINV

## 75C58L
designator IC?, comment MEMORY
OC_FARNELL: unknown; OC_NEWARK: unknown
footprint L28-1
pins: 1 D7 (out), 2 D6 (out), 3 D5 (out), 4 D4 (out), 5 DGND (power), 6 VCC (power), 7 VEE (power), 8 VEE@1 (power), 9 VEE@2 (power), 10 VCC@1 (power), 11 DGND@1 (power), 12 OVFL, 13 D3 (out), 14 D2 (out), 15 D1 (out), 16 D0 (out), 17 CONV, 18 VCC@2 (power), 19 RT, 20 AGND (power), 21 VIN, 22 VIN@1, 23 RM, 24 NC, 25 AGND@1 (power), 26 RB, 27 !OE1, 28 OE2

## 75C58P
designator IC?, comment MEMORY
OC_FARNELL: unknown; OC_NEWARK: unknown
footprint DIL28-6
pins: 1 D7 (out), 2 D6 (out), 3 D5 (out), 4 D4 (out), 5 DGND (power), 6 VCC (power), 7 VEE (power), 8 VEE@1 (power), 9 VEE@2 (power), 10 VCC@1 (power), 11 DGND@1 (power), 12 OVFL, 13 D3 (out), 14 D2 (out), 15 D1 (out), 16 D0 (out), 17 CONV, 18 VCC@2 (power), 19 RT, 20 AGND (power), 21 VIN, 22 VIN@1, 23 RM, 24 NC, 25 AGND@1 (power), 26 RB, 27 !OE1, 28 OE2

## 75MB38P
designator IC?, comment MEMORY
OC_FARNELL: unknown; OC_NEWARK: unknown
footprint DIL40
pins: 1 VEEA (power), 2 FSADJ, 3 NC, 4 BLANK, 5 OVERLAY, 6 OUT+B (out), 7 OUT-B (out), 8 OUT+R (out), 9 OUT-R (out), 10 OUT+G (out), 11 OUT-G (out), 12 SYNC, 13 CONV, 14 D7G, 15 D6G, 16 D5G, 17 D4G, 18 D3G, 19 D2G, 20 VCCA (power), 21 VCCD (power), 22 D1G, 23 D0G, 24 D7R, 25 D6R, 26 D5R, 27 D4R, 28 D3R, 29 D2R, 30 D1R, 31 D0R, 32 D7B, 33 D6B, 34 D5B, 35 D4B, 36 D3B, 37 D2B, 38 D1B, 39 D0B, 40 VEED (power)

## 78C16L
designator IC?, comment MEMORY
OC_FARNELL: unknown; OC_NEWARK: unknown
footprint L32-1
part A pins: 1 NC, 2 NC@1, 3 NC@2, 4 A7, 5 A6, 6 A5, 7 A4, 8 A3, 9 A2, 10 A1, 11 A0, 12 NC@3, 13 I/O0, 14 I/O1, 15 I/O2, 17 NC@4, 18 I/O3, 19 I/O4, 20 I/O5, 21 I/O6, 22 I/O7, 23 !CE, 24 A10, 25 !OE, 26 NC@5, 27 NC@6, 28 A9, 29 A8, 30 NC@7, 31 !WE
part B pins: 16 GND (power), 32 VCC (power)

## 78C16P
designator IC?, comment MEMORY
OC_FARNELL: unknown; OC_NEWARK: unknown
footprint DIL24-6
part A pins: 1 A7, 2 A6, 3 A5, 4 A4, 5 A3, 6 A2, 7 A1, 8 A0, 9 I/O0, 10 I/O1, 11 I/O2, 13 I/O3, 14 I/O4, 15 I/O5, 16 I/O6, 17 I/O7, 18 !CE, 19 A10, 20 !OE, 21 !WE, 22 A9, 23 A8
part B pins: 12 GND (power), 24 VCC (power)

## 78C18L
designator IC?, comment MEMORY
OC_FARNELL: unknown; OC_NEWARK: unknown
footprint L32-1
part A pins: 16 GND (power), 32 VCC (power)
part B pins: 1 NC, 2 A7, 3 A6, 4 A5, 5 A4, 6 A3, 7 SCLK, 8 A2, 9 A1, 10 C/!D, 11 A0, 12 NC@1, 13 I/O0, 14 I/O1, 15 I/O2, 17 NC@2, 18 I/O3, 19 I/O4, 20 I/O5, 21 I/O6, 22 I/O7, 23 SDI, 24 !CE, 25 A10, 26 SDO, 27 NC@3, 28 !OE, 29 A9, 30 A8, 31 !WE

## 78C18P
designator IC?, comment MEMORY
OC_FARNELL: unknown; OC_NEWARK: unknown
footprint DIL28-6
part A pins: 1 A7, 2 A6, 3 A5, 4 A4, 5 A3, 6 SCLK, 7 A2, 8 A1, 9 C/!D, 10 A0, 11 I/O0, 12 I/O1, 13 I/O2, 15 I/O3, 16 I/O4, 17 I/O5, 18 I/O6, 19 I/O7, 20 SDI, 21 !CE, 22 A10, 23 SDO, 24 !OE, 25 !WE, 26 A9, 27 A8
part B pins: 14 GND (power), 28 VCC (power)

## 78C64L
designator IC?, comment MEMORY
OC_FARNELL: unknown; OC_NEWARK: unknown
footprint L32-1
part A pins: 1 NC, 2 NC@1, 3 A12, 4 A7, 5 A6, 6 A5, 7 A4, 8 A3, 9 A2, 10 A1, 11 A0, 12 NC@2, 13 I/O0, 14 I/O1, 15 I/O2, 17 NC@3, 18 I/O3, 19 I/O4, 20 I/O5, 21 I/O6, 22 I/O7, 23 !CE, 24 A10, 25 !OE, 26 NC@4, 27 A11, 28 A9, 29 A8, 30 NC@5, 31 !WE
part B pins: 16 GND (power), 32 VCC (power)

## 78C64P
designator IC?, comment MEMORY
OC_FARNELL: unknown; OC_NEWARK: unknown
footprint DIL28-6
part A pins: 1 NC, 2 A12, 3 A7, 4 A6, 5 A5, 6 A4, 7 A3, 8 A2, 9 A1, 10 A0, 11 I/O0, 12 I/O1, 13 I/O2, 15 I/O3, 16 I/O4, 17 I/O5, 18 I/O6, 19 I/O7, 20 !CE, 21 A10, 22 !OE, 23 A11, 24 A9, 25 A8, 26 NC@1, 27 !WE
part B pins: 14 GND (power), 28 VCC (power)

## 78C464P
designator IC?, comment MEMORY
OC_FARNELL: unknown; OC_NEWARK: unknown
footprint DIL28-6
part A pins: 1 !INIT, 2 A12, 3 A7, 4 A6, 5 A5, 6 A4, 7 A3, 8 A2, 9 A1, 10 A0, 11 I/O0, 12 I/O1, 13 I/O2, 15 I/O3, 16 I/O4, 17 I/O5, 18 I/O6, 19 I/O7, 20 !CE, 21 A10, 22 !OE, 23 A11, 24 A9, 25 A8, 26 RCLK, 27 !WE
part B pins: 14 GND (power), 28 VCC (power)

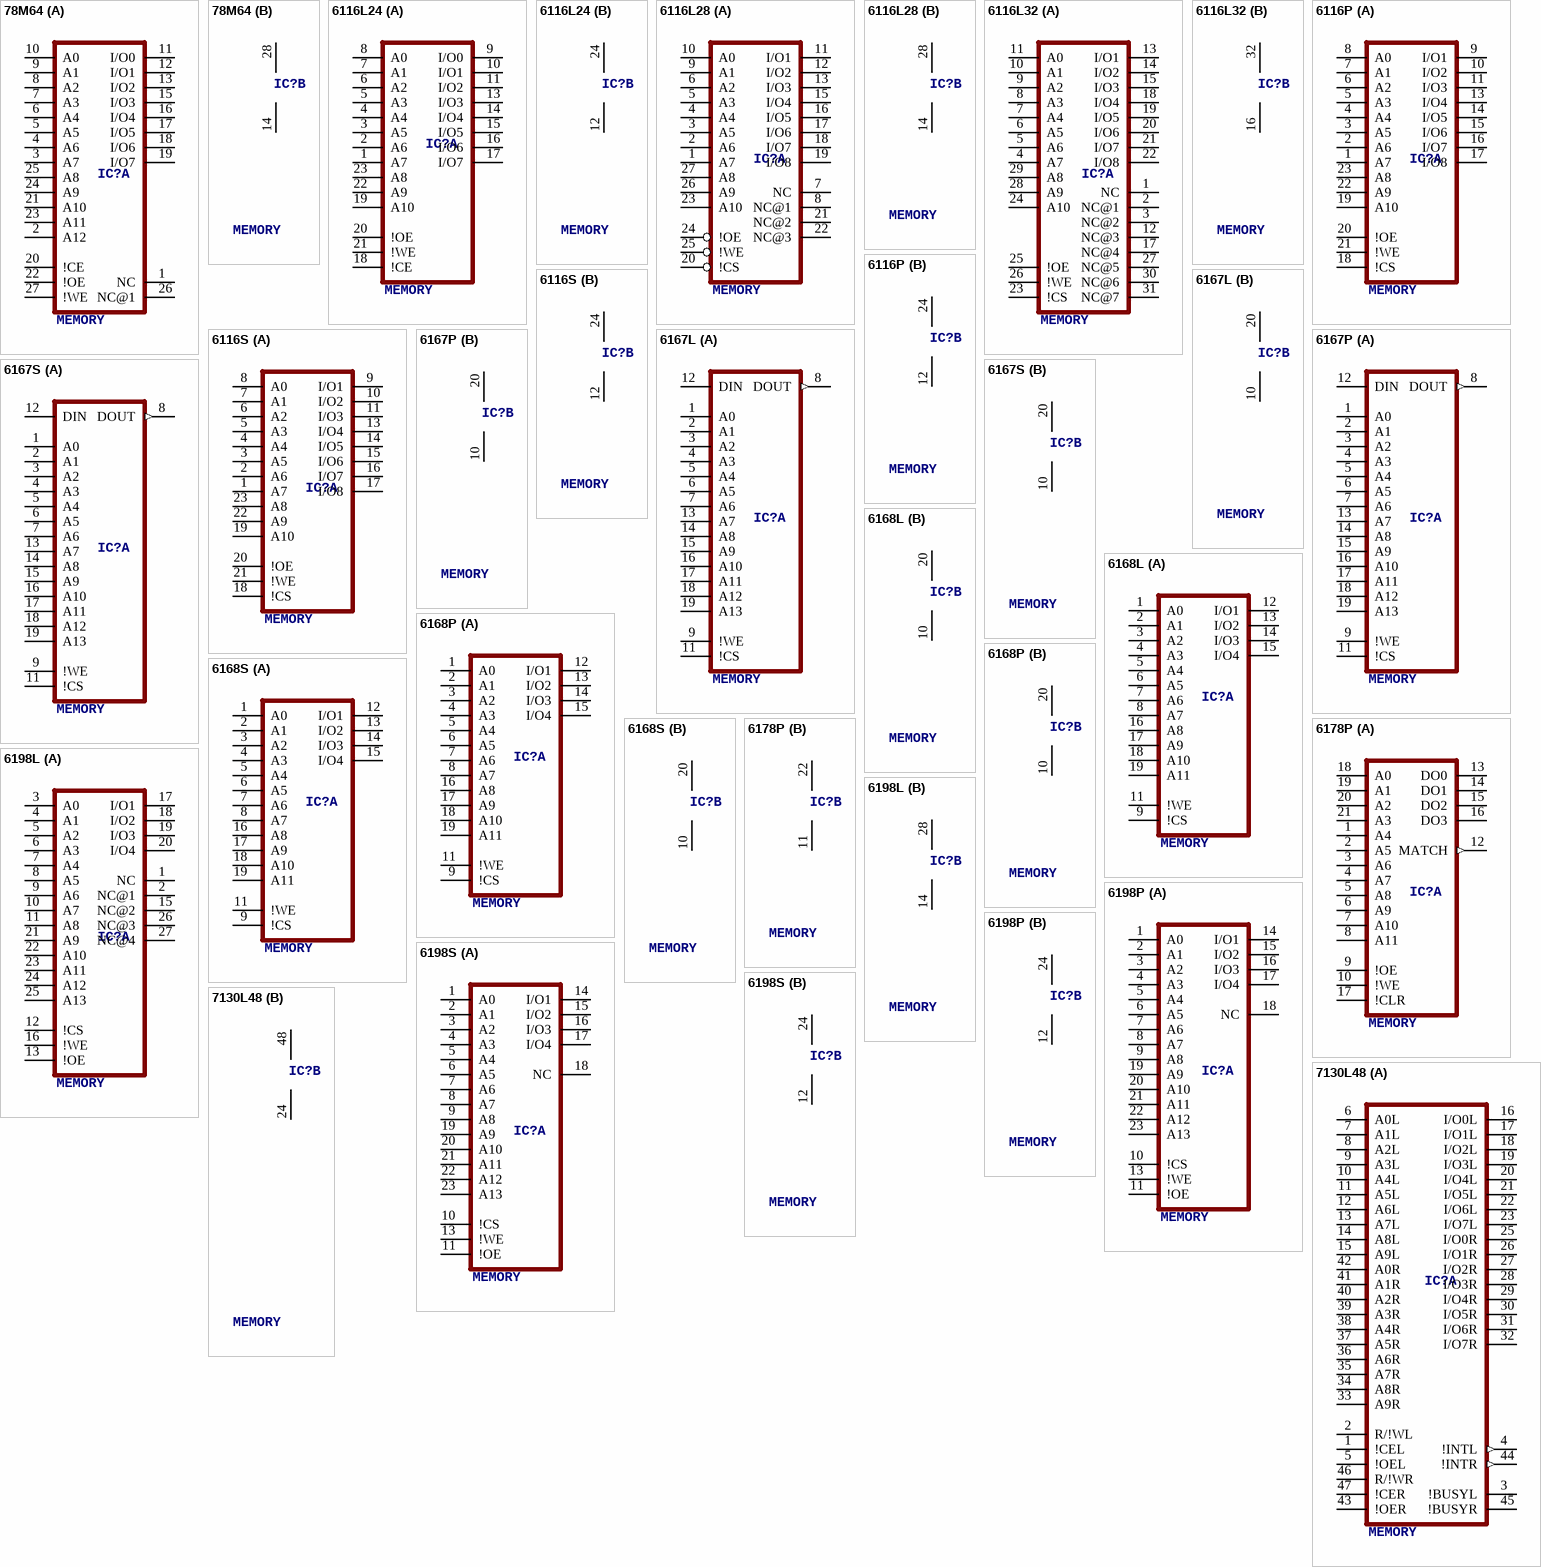
[diagram p12: symbols 78M64 to 7130L48]

## 78M64
designator IC?, comment MEMORY
OC_FARNELL: unknown; OC_NEWARK: unknown
footprint DIL28-6
part A pins: 1 NC, 2 A12, 3 A7, 4 A6, 5 A5, 6 A4, 7 A3, 8 A2, 9 A1, 10 A0, 11 I/O0, 12 I/O1, 13 I/O2, 15 I/O3, 16 I/O4, 17 I/O5, 18 I/O6, 19 I/O7, 20 !CE, 21 A10, 22 !OE, 23 A11, 24 A9, 25 A8, 26 NC@1, 27 !WE
part B pins: 14 GND (power), 28 VCC (power)

## 6116L24
designator IC?, comment MEMORY
OC_FARNELL: unknown; OC_NEWARK: unknown
footprint L24-1
part A pins: 1 A7, 2 A6, 3 A5, 4 A4, 5 A3, 6 A2, 7 A1, 8 A0, 9 I/O0, 10 I/O1, 11 I/O2, 13 I/O3, 14 I/O4, 15 I/O5, 16 I/O6, 17 I/O7, 18 !CE, 19 A10, 20 !OE, 21 !WE, 22 A9, 23 A8
part B pins: 12 GND (power), 24 VCC (power)

## 6116L28
designator IC?, comment MEMORY
OC_FARNELL: unknown; OC_NEWARK: unknown
footprint L28-1
part A pins: 1 A7, 2 A6, 3 A5, 4 A4, 5 A3, 6 A2, 7 NC, 8 NC@1, 9 A1, 10 A0, 11 I/O1, 12 I/O2, 13 I/O3, 15 I/O4, 16 I/O5, 17 I/O6, 18 I/O7, 19 I/O8, 20 !CS, 21 NC@2, 22 NC@3, 23 A10, 24 !OE, 25 !WE, 26 A9, 27 A8
part B pins: 14 GND (power), 28 VCC (power)

## 6116L32
designator IC?, comment MEMORY
OC_FARNELL: unknown; OC_NEWARK: unknown
footprint L32-1
part A pins: 1 NC, 2 NC@1, 3 NC@2, 4 A7, 5 A6, 6 A5, 7 A4, 8 A3, 9 A2, 10 A1, 11 A0, 12 NC@3, 13 I/O1, 14 I/O2, 15 I/O3, 17 NC@4, 18 I/O4, 19 I/O5, 20 I/O6, 21 I/O7, 22 I/O8, 23 !CS, 24 A10, 25 !OE, 26 !WE, 27 NC@5, 28 A9, 29 A8, 30 NC@6, 31 NC@7
part B pins: 16 GND (power), 32 VCC (power)

## 6116P
designator IC?, comment MEMORY
OC_FARNELL: unknown; OC_NEWARK: unknown
footprint DIL24-6
part A pins: 1 A7, 2 A6, 3 A5, 4 A4, 5 A3, 6 A2, 7 A1, 8 A0, 9 I/O1, 10 I/O2, 11 I/O3, 13 I/O4, 14 I/O5, 15 I/O6, 16 I/O7, 17 I/O8, 18 !CS, 19 A10, 20 !OE, 21 !WE, 22 A9, 23 A8
part B pins: 12 GND (power), 24 VCC (power)

## 6116S
designator IC?, comment MEMORY
OC_FARNELL: unknown; OC_NEWARK: unknown
footprint SO24-2
part A pins: 1 A7, 2 A6, 3 A5, 4 A4, 5 A3, 6 A2, 7 A1, 8 A0, 9 I/O1, 10 I/O2, 11 I/O3, 13 I/O4, 14 I/O5, 15 I/O6, 16 I/O7, 17 I/O8, 18 !CS, 19 A10, 20 !OE, 21 !WE, 22 A9, 23 A8
part B pins: 12 GND (power), 24 VCC (power)

## 6167L
designator IC?, comment MEMORY
OC_FARNELL: unknown; OC_NEWARK: unknown
footprint L20-1
part A pins: 1 A0, 2 A1, 3 A2, 4 A3, 5 A4, 6 A5, 7 A6, 8 DOUT (out), 9 !WE, 11 !CS, 12 DIN, 13 A7, 14 A8, 15 A9, 16 A10, 17 A11, 18 A12, 19 A13
part B pins: 10 GND (power), 20 VCC (power)

## 6167P
designator IC?, comment MEMORY
OC_FARNELL: unknown; OC_NEWARK: unknown
footprint DIL20
part A pins: 1 A0, 2 A1, 3 A2, 4 A3, 5 A4, 6 A5, 7 A6, 8 DOUT (out), 9 !WE, 11 !CS, 12 DIN, 13 A7, 14 A8, 15 A9, 16 A10, 17 A11, 18 A12, 19 A13
part B pins: 10 GND (power), 20 VCC (power)

## 6167S
designator IC?, comment MEMORY
OC_FARNELL: unknown; OC_NEWARK: unknown
footprint SO20-2
part A pins: 1 A0, 2 A1, 3 A2, 4 A3, 5 A4, 6 A5, 7 A6, 8 DOUT (out), 9 !WE, 11 !CS, 12 DIN, 13 A7, 14 A8, 15 A9, 16 A10, 17 A11, 18 A12, 19 A13
part B pins: 10 GND (power), 20 VCC (power)

## 6168L
designator IC?, comment MEMORY
OC_FARNELL: unknown; OC_NEWARK: unknown
footprint L20-1
part A pins: 1 A0, 2 A1, 3 A2, 4 A3, 5 A4, 6 A5, 7 A6, 8 A7, 9 !CS, 11 !WE, 12 I/O1, 13 I/O2, 14 I/O3, 15 I/O4, 16 A8, 17 A9, 18 A10, 19 A11
part B pins: 10 GND (power), 20 VCC (power)

## 6168P
designator IC?, comment MEMORY
OC_FARNELL: unknown; OC_NEWARK: unknown
footprint DIL20
part A pins: 1 A0, 2 A1, 3 A2, 4 A3, 5 A4, 6 A5, 7 A6, 8 A7, 9 !CS, 11 !WE, 12 I/O1, 13 I/O2, 14 I/O3, 15 I/O4, 16 A8, 17 A9, 18 A10, 19 A11
part B pins: 10 GND (power), 20 VCC (power)

## 6168S
designator IC?, comment MEMORY
OC_FARNELL: unknown; OC_NEWARK: unknown
footprint SO20-2
part A pins: 1 A0, 2 A1, 3 A2, 4 A3, 5 A4, 6 A5, 7 A6, 8 A7, 9 !CS, 11 !WE, 12 I/O1, 13 I/O2, 14 I/O3, 15 I/O4, 16 A8, 17 A9, 18 A10, 19 A11
part B pins: 10 GND (power), 20 VCC (power)

## 6178P
designator IC?, comment MEMORY
OC_FARNELL: unknown; OC_NEWARK: unknown
footprint DIL22-3
part A pins: 1 A4, 2 A5, 3 A6, 4 A7, 5 A8, 6 A9, 7 A10, 8 A11, 9 !OE, 10 !WE, 12 MATCH (out), 13 DO0, 14 DO1, 15 DO2, 16 DO3, 17 !CLR, 18 A0, 19 A1, 20 A2, 21 A3
part B pins: 11 GND (power), 22 VCC (power)

## 6198L
designator IC?, comment MEMORY
OC_FARNELL: unknown; OC_NEWARK: unknown
footprint L28-2
part A pins: 1 NC, 2 NC@1, 3 A0, 4 A1, 5 A2, 6 A3, 7 A4, 8 A5, 9 A6, 10 A7, 11 A8, 12 !CS, 13 !OE, 15 NC@2, 16 !WE, 17 I/O1, 18 I/O2, 19 I/O3, 20 I/O4, 21 A9, 22 A10, 23 A11, 24 A12, 25 A13, 26 NC@3, 27 NC@4
part B pins: 14 GND (power), 28 VCC (power)

## 6198P
designator IC?, comment MEMORY
OC_FARNELL: unknown; OC_NEWARK: unknown
footprint DIL24-6
part A pins: 1 A0, 2 A1, 3 A2, 4 A3, 5 A4, 6 A5, 7 A6, 8 A7, 9 A8, 10 !CS, 11 !OE, 13 !WE, 14 I/O1, 15 I/O2, 16 I/O3, 17 I/O4, 18 NC, 19 A9, 20 A10, 21 A11, 22 A12, 23 A13
part B pins: 12 GND (power), 24 VCC (power)

## 6198S
designator IC?, comment MEMORY
OC_FARNELL: unknown; OC_NEWARK: unknown
footprint L24-1
part A pins: 1 A0, 2 A1, 3 A2, 4 A3, 5 A4, 6 A5, 7 A6, 8 A7, 9 A8, 10 !CS, 11 !OE, 13 !WE, 14 I/O1, 15 I/O2, 16 I/O3, 17 I/O4, 18 NC, 19 A9, 20 A10, 21 A11, 22 A12, 23 A13
part B pins: 12 GND (power), 24 VCC (power)

## 7130L48
designator IC?, comment MEMORY
OC_FARNELL: unknown; OC_NEWARK: unknown
footprint L48-1
part A pins: 1 !CEL, 2 R/!WL, 3 !BUSYL, 4 !INTL (out), 5 !OEL, 6 A0L, 7 A1L, 8 A2L, 9 A3L, 10 A4L, 11 A5L, 12 A6L, 13 A7L, 14 A8L, 15 A9L, 16 I/O0L, 17 I/O1L, 18 I/O2L, 19 I/O3L, 20 I/O4L, 21 I/O5L, 22 I/O6L, 23 I/O7L, 25 I/O0R, 26 I/O1R, 27 I/O2R, 28 I/O3R, 29 I/O4R, 30 I/O5R, 31 I/O6R, 32 I/O7R, 33 A9R, 34 A8R, 35 A7R, 36 A6R, 37 A5R, 38 A4R, 39 A3R, 40 A2R, 41 A1R, 42 A0R, 43 !OER, 44 !INTR (out), 45 !BUSYR, 46 R/!WR, 47 !CER
part B pins: 24 GND (power), 48 VCC (power)

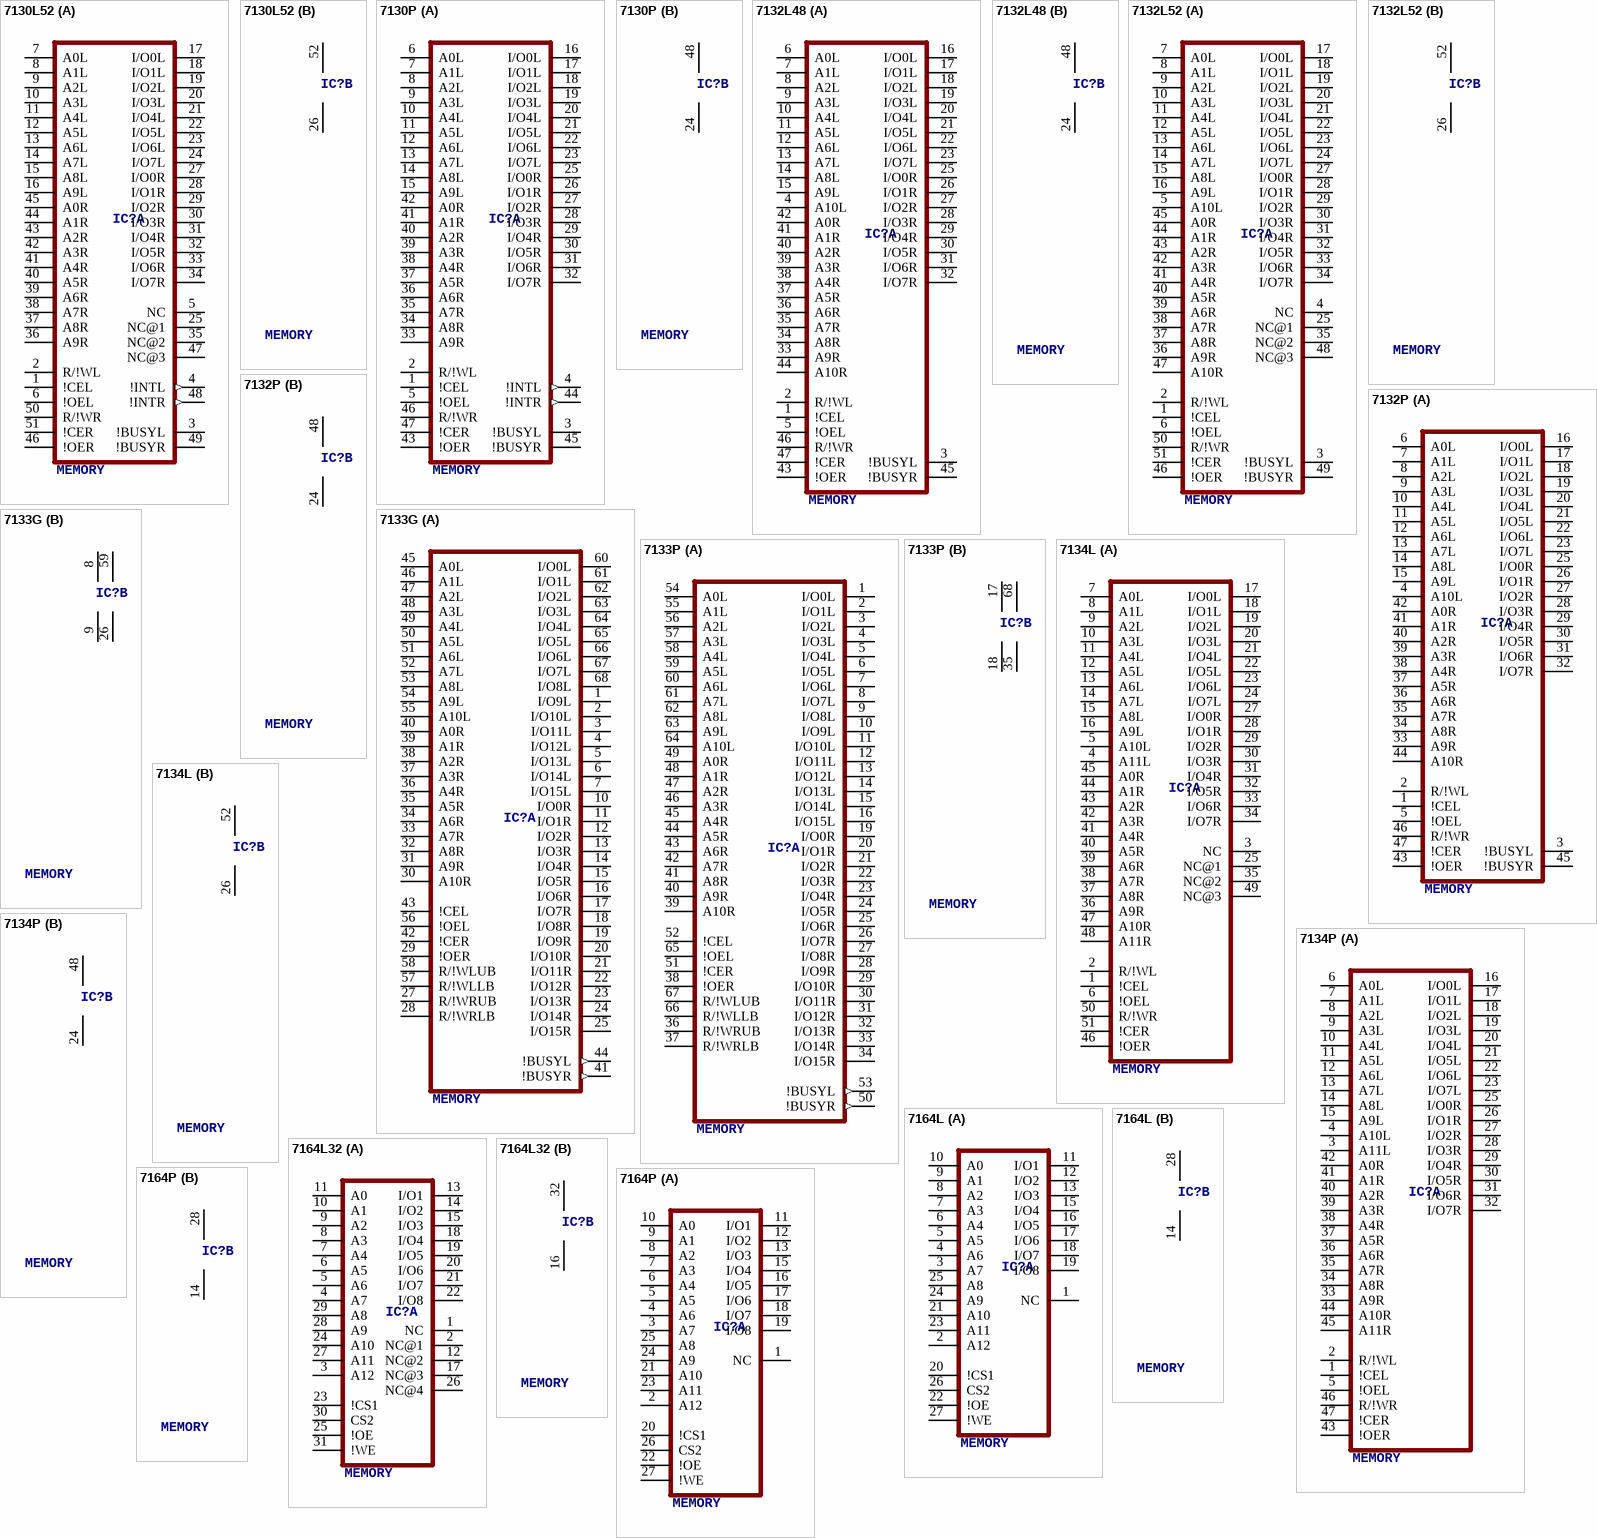
[diagram p13: symbols 7130L52 to 7164P]

## 7130L52
designator IC?, comment MEMORY
OC_FARNELL: unknown; OC_NEWARK: unknown
footprint L52-1
part A pins: 1 !CEL, 2 R/!WL, 3 !BUSYL, 4 !INTL (out), 5 NC, 6 !OEL, 7 A0L, 8 A1L, 9 A2L, 10 A3L, 11 A4L, 12 A5L, 13 A6L, 14 A7L, 15 A8L, 16 A9L, 17 I/O0L, 18 I/O1L, 19 I/O2L, 20 I/O3L, 21 I/O4L, 22 I/O5L, 23 I/O6L, 24 I/O7L, 25 NC@1, 27 I/O0R, 28 I/O1R, 29 I/O2R, 30 I/O3R, 31 I/O4R, 32 I/O5R, 33 I/O6R, 34 I/O7R, 35 NC@2, 36 A9R, 37 A8R, 38 A7R, 39 A6R, 40 A5R, 41 A4R, 42 A3R, 43 A2R, 44 A1R, 45 A0R, 46 !OER, 47 NC@3, 48 !INTR (out), 49 !BUSYR, 50 R/!WR, 51 !CER
part B pins: 26 GND (power), 52 VCC (power)

## 7130P
designator IC?, comment MEMORY
OC_FARNELL: unknown; OC_NEWARK: unknown
footprint DIL48
part A pins: 1 !CEL, 2 R/!WL, 3 !BUSYL, 4 !INTL (out), 5 !OEL, 6 A0L, 7 A1L, 8 A2L, 9 A3L, 10 A4L, 11 A5L, 12 A6L, 13 A7L, 14 A8L, 15 A9L, 16 I/O0L, 17 I/O1L, 18 I/O2L, 19 I/O3L, 20 I/O4L, 21 I/O5L, 22 I/O6L, 23 I/O7L, 25 I/O0R, 26 I/O1R, 27 I/O2R, 28 I/O3R, 29 I/O4R, 30 I/O5R, 31 I/O6R, 32 I/O7R, 33 A9R, 34 A8R, 35 A7R, 36 A6R, 37 A5R, 38 A4R, 39 A3R, 40 A2R, 41 A1R, 42 A0R, 43 !OER, 44 !INTR (out), 45 !BUSYR, 46 R/!WR, 47 !CER
part B pins: 24 GND (power), 48 VCC (power)

## 7132L48
designator IC?, comment MEMORY
OC_FARNELL: unknown; OC_NEWARK: unknown
footprint L48-1
part A pins: 1 !CEL, 2 R/!WL, 3 !BUSYL, 4 A10L, 5 !OEL, 6 A0L, 7 A1L, 8 A2L, 9 A3L, 10 A4L, 11 A5L, 12 A6L, 13 A7L, 14 A8L, 15 A9L, 16 I/O0L, 17 I/O1L, 18 I/O2L, 19 I/O3L, 20 I/O4L, 21 I/O5L, 22 I/O6L, 23 I/O7L, 25 I/O0R, 26 I/O1R, 27 I/O2R, 28 I/O3R, 29 I/O4R, 30 I/O5R, 31 I/O6R, 32 I/O7R, 33 A9R, 34 A8R, 35 A7R, 36 A6R, 37 A5R, 38 A4R, 39 A3R, 40 A2R, 41 A1R, 42 A0R, 43 !OER, 44 A10R, 45 !BUSYR, 46 R/!WR, 47 !CER
part B pins: 24 GND (power), 48 VCC (power)

## 7132L52
designator IC?, comment MEMORY
MPN: IDT7132LA20JG; OC_FARNELL: 1688283; OC_NEWARK: 52R2132
footprint L52-1
part A pins: 1 !CEL, 2 R/!WL, 3 !BUSYL, 4 NC, 5 A10L, 6 !OEL, 7 A0L, 8 A1L, 9 A2L, 10 A3L, 11 A4L, 12 A5L, 13 A6L, 14 A7L, 15 A8L, 16 A9L, 17 I/O0L, 18 I/O1L, 19 I/O2L, 20 I/O3L, 21 I/O4L, 22 I/O5L, 23 I/O6L, 24 I/O7L, 25 NC@1, 27 I/O0R, 28 I/O1R, 29 I/O2R, 30 I/O3R, 31 I/O4R, 32 I/O5R, 33 I/O6R, 34 I/O7R, 35 NC@2, 36 A9R, 37 A8R, 38 A7R, 39 A6R, 40 A5R, 41 A4R, 42 A3R, 43 A2R, 44 A1R, 45 A0R, 46 !OER, 47 A10R, 48 NC@3, 49 !BUSYR, 50 R/!WR, 51 !CER
part B pins: 26 GND (power), 52 VCC (power)

## 7132P
designator IC?, comment MEMORY
OC_FARNELL: unknown; OC_NEWARK: unknown
footprint DIL48
part A pins: 1 !CEL, 2 R/!WL, 3 !BUSYL, 4 A10L, 5 !OEL, 6 A0L, 7 A1L, 8 A2L, 9 A3L, 10 A4L, 11 A5L, 12 A6L, 13 A7L, 14 A8L, 15 A9L, 16 I/O0L, 17 I/O1L, 18 I/O2L, 19 I/O3L, 20 I/O4L, 21 I/O5L, 22 I/O6L, 23 I/O7L, 25 I/O0R, 26 I/O1R, 27 I/O2R, 28 I/O3R, 29 I/O4R, 30 I/O5R, 31 I/O6R, 32 I/O7R, 33 A9R, 34 A8R, 35 A7R, 36 A6R, 37 A5R, 38 A4R, 39 A3R, 40 A2R, 41 A1R, 42 A0R, 43 !OER, 44 A10R, 45 !BUSYR, 46 R/!WR, 47 !CER
part B pins: 24 GND (power), 48 VCC (power)

## 7133G
designator IC?, comment MEMORY
OC_FARNELL: unknown; OC_NEWARK: unknown
footprint G68-1
part A pins: 1 I/O9L, 2 I/O10L, 3 I/O11L, 4 I/O12L, 5 I/O13L, 6 I/O14L, 7 I/O15L, 10 I/O0R, 11 I/O1R, 12 I/O2R, 13 I/O3R, 14 I/O4R, 15 I/O5R, 16 I/O6R, 17 I/O7R, 18 I/O8R, 19 I/O9R, 20 I/O10R, 21 I/O11R, 22 I/O12R, 23 I/O13R, 24 I/O14R, 25 I/O15R, 27 R/!WRUB, 28 R/!WRLB, 29 !OER, 30 A10R, 31 A9R, 32 A8R, 33 A7R, 34 A6R, 35 A5R, 36 A4R, 37 A3R, 38 A2R, 39 A1R, 40 A0R, 41 !BUSYR (out), 42 !CER, 43 !CEL, 44 !BUSYL (out), 45 A0L, 46 A1L, 47 A2L, 48 A3L, 49 A4L, 50 A5L, 51 A6L, 52 A7L, 53 A8L, 54 A9L, 55 A10L, 56 !OEL, 57 R/!WLLB, 58 R/!WLUB, 60 I/O0L, 61 I/O1L, 62 I/O2L, 63 I/O3L, 64 I/O4L, 65 I/O5L, 66 I/O6L, 67 I/O7L, 68 I/O8L
part B pins: 8 VCC (power), 9 GND (power), 26 GND@1 (power), 59 VCC@1 (power)

## 7133P
designator IC?, comment MEMORY
OC_FARNELL: unknown; OC_NEWARK: unknown
footprint C68-1
part A pins: 1 I/O0L, 2 I/O1L, 3 I/O2L, 4 I/O3L, 5 I/O4L, 6 I/O5L, 7 I/O6L, 8 I/O7L, 9 I/O8L, 10 I/O9L, 11 I/O10L, 12 I/O11L, 13 I/O12L, 14 I/O13L, 15 I/O14L, 16 I/O15L, 19 I/O0R, 20 I/O1R, 21 I/O2R, 22 I/O3R, 23 I/O4R, 24 I/O5R, 25 I/O6R, 26 I/O7R, 27 I/O8R, 28 I/O9R, 29 I/O10R, 30 I/O11R, 31 I/O12R, 32 I/O13R, 33 I/O14R, 34 I/O15R, 36 R/!WRUB, 37 R/!WRLB, 38 !OER, 39 A10R, 40 A9R, 41 A8R, 42 A7R, 43 A6R, 44 A5R, 45 A4R, 46 A3R, 47 A2R, 48 A1R, 49 A0R, 50 !BUSYR (out), 51 !CER, 52 !CEL, 53 !BUSYL (out), 54 A0L, 55 A1L, 56 A2L, 57 A3L, 58 A4L, 59 A5L, 60 A6L, 61 A7L, 62 A8L, 63 A9L, 64 A10L, 65 !OEL, 66 R/!WLLB, 67 R/!WLUB
part B pins: 17 VCC (power), 18 GND (power), 35 GND@1 (power), 68 VCC@1 (power)

## 7134L
designator IC?, comment MEMORY
OC_FARNELL: unknown; OC_NEWARK: unknown
footprint L52-1
part A pins: 1 !CEL, 2 R/!WL, 3 NC, 4 A11L, 5 A10L, 6 !OEL, 7 A0L, 8 A1L, 9 A2L, 10 A3L, 11 A4L, 12 A5L, 13 A6L, 14 A7L, 15 A8L, 16 A9L, 17 I/O0L, 18 I/O1L, 19 I/O2L, 20 I/O3L, 21 I/O4L, 22 I/O5L, 23 I/O6L, 24 I/O7L, 25 NC@1, 27 I/O0R, 28 I/O1R, 29 I/O2R, 30 I/O3R, 31 I/O4R, 32 I/O5R, 33 I/O6R, 34 I/O7R, 35 NC@2, 36 A9R, 37 A8R, 38 A7R, 39 A6R, 40 A5R, 41 A4R, 42 A3R, 43 A2R, 44 A1R, 45 A0R, 46 !OER, 47 A10R, 48 A11R, 49 NC@3, 50 R/!WR, 51 !CER
part B pins: 26 GND (power), 52 VCC (power)

## 7134P
designator IC?, comment MEMORY
OC_FARNELL: unknown; OC_NEWARK: unknown
footprint DIL48
part A pins: 1 !CEL, 2 R/!WL, 3 A11L, 4 A10L, 5 !OEL, 6 A0L, 7 A1L, 8 A2L, 9 A3L, 10 A4L, 11 A5L, 12 A6L, 13 A7L, 14 A8L, 15 A9L, 16 I/O0L, 17 I/O1L, 18 I/O2L, 19 I/O3L, 20 I/O4L, 21 I/O5L, 22 I/O6L, 23 I/O7L, 25 I/O0R, 26 I/O1R, 27 I/O2R, 28 I/O3R, 29 I/O4R, 30 I/O5R, 31 I/O6R, 32 I/O7R, 33 A9R, 34 A8R, 35 A7R, 36 A6R, 37 A5R, 38 A4R, 39 A3R, 40 A2R, 41 A1R, 42 A0R, 43 !OER, 44 A10R, 45 A11R, 46 R/!WR, 47 !CER
part B pins: 24 GND (power), 48 VCC (power)

## 7164L
designator IC?, comment MEMORY
OC_FARNELL: unknown; OC_NEWARK: unknown
footprint L28-1
part A pins: 1 NC, 2 A12, 3 A7, 4 A6, 5 A5, 6 A4, 7 A3, 8 A2, 9 A1, 10 A0, 11 I/O1, 12 I/O2, 13 I/O3, 15 I/O4, 16 I/O5, 17 I/O6, 18 I/O7, 19 I/O8, 20 !CS1, 21 A10, 22 !OE, 23 A11, 24 A9, 25 A8, 26 CS2, 27 !WE
part B pins: 14 GND (power), 28 VCC (power)

## 7164L32
designator IC?, comment MEMORY
OC_FARNELL: unknown; OC_NEWARK: unknown
footprint L32-1
part A pins: 1 NC, 2 NC@1, 3 A12, 4 A7, 5 A6, 6 A5, 7 A4, 8 A3, 9 A2, 10 A1, 11 A0, 12 NC@2, 13 I/O1, 14 I/O2, 15 I/O3, 17 NC@3, 18 I/O4, 19 I/O5, 20 I/O6, 21 I/O7, 22 I/O8, 23 !CS1, 24 A10, 25 !OE, 26 NC@4, 27 A11, 28 A9, 29 A8, 30 CS2, 31 !WE
part B pins: 16 GND (power), 32 VCC (power)

## 7164P
designator IC?, comment MEMORY
OC_FARNELL: unknown; OC_NEWARK: unknown
footprint DIL28-6
part A pins: 1 NC, 2 A12, 3 A7, 4 A6, 5 A5, 6 A4, 7 A3, 8 A2, 9 A1, 10 A0, 11 I/O1, 12 I/O2, 13 I/O3, 15 I/O4, 16 I/O5, 17 I/O6, 18 I/O7, 19 I/O8, 20 !CS1, 21 A10, 22 !OE, 23 A11, 24 A9, 25 A8, 26 CS2, 27 !WE
part B pins: 14 GND (power), 28 VCC (power)

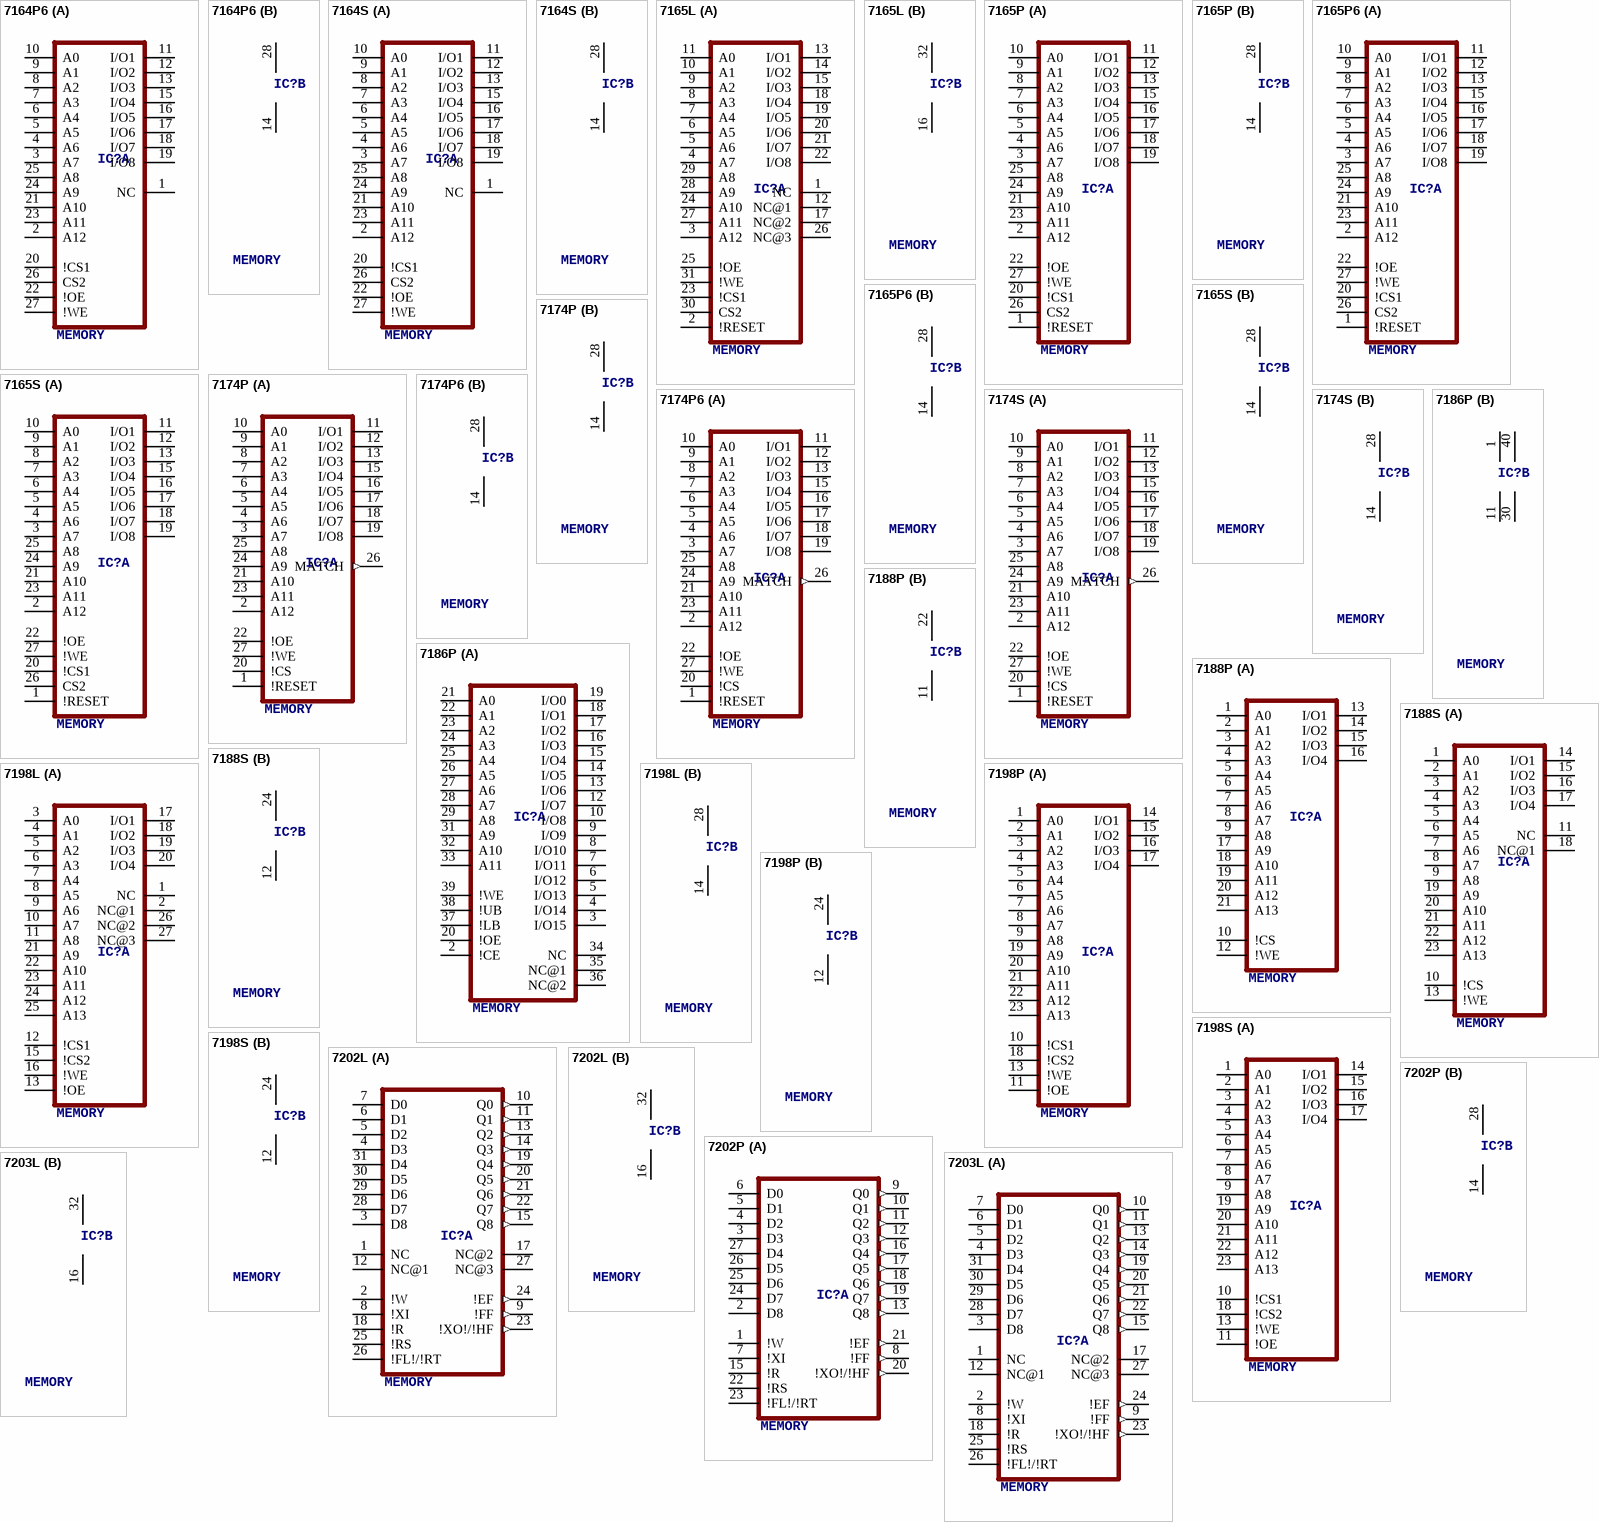
[diagram p14: symbols 7164P6 to 7203L]

## 7164P6
designator IC?, comment MEMORY
OC_FARNELL: unknown; OC_NEWARK: unknown
footprint DIL28-3
part A pins: 1 NC, 2 A12, 3 A7, 4 A6, 5 A5, 6 A4, 7 A3, 8 A2, 9 A1, 10 A0, 11 I/O1, 12 I/O2, 13 I/O3, 15 I/O4, 16 I/O5, 17 I/O6, 18 I/O7, 19 I/O8, 20 !CS1, 21 A10, 22 !OE, 23 A11, 24 A9, 25 A8, 26 CS2, 27 !WE
part B pins: 14 GND (power), 28 VCC (power)

## 7164S
designator IC?, comment MEMORY
OC_FARNELL: unknown; OC_NEWARK: unknown
footprint SO28-3
part A pins: 1 NC, 2 A12, 3 A7, 4 A6, 5 A5, 6 A4, 7 A3, 8 A2, 9 A1, 10 A0, 11 I/O1, 12 I/O2, 13 I/O3, 15 I/O4, 16 I/O5, 17 I/O6, 18 I/O7, 19 I/O8, 20 !CS1, 21 A10, 22 !OE, 23 A11, 24 A9, 25 A8, 26 CS2, 27 !WE
part B pins: 14 GND (power), 28 VCC (power)

## 7165L
designator IC?, comment MEMORY
OC_FARNELL: unknown; OC_NEWARK: unknown
footprint L32-1
part A pins: 1 NC, 2 !RESET, 3 A12, 4 A7, 5 A6, 6 A5, 7 A4, 8 A3, 9 A2, 10 A1, 11 A0, 12 NC@1, 13 I/O1, 14 I/O2, 15 I/O3, 17 NC@2, 18 I/O4, 19 I/O5, 20 I/O6, 21 I/O7, 22 I/O8, 23 !CS1, 24 A10, 25 !OE, 26 NC@3, 27 A11, 28 A9, 29 A8, 30 CS2, 31 !WE
part B pins: 16 GND (power), 32 VCC (power)

## 7165P
designator IC?, comment MEMORY
OC_FARNELL: unknown; OC_NEWARK: unknown
footprint DIL28-6
part A pins: 1 !RESET, 2 A12, 3 A7, 4 A6, 5 A5, 6 A4, 7 A3, 8 A2, 9 A1, 10 A0, 11 I/O1, 12 I/O2, 13 I/O3, 15 I/O4, 16 I/O5, 17 I/O6, 18 I/O7, 19 I/O8, 20 !CS1, 21 A10, 22 !OE, 23 A11, 24 A9, 25 A8, 26 CS2, 27 !WE
part B pins: 14 GND (power), 28 VCC (power)

## 7165P6
designator IC?, comment MEMORY
OC_FARNELL: unknown; OC_NEWARK: unknown
footprint DIL28-3
part A pins: 1 !RESET, 2 A12, 3 A7, 4 A6, 5 A5, 6 A4, 7 A3, 8 A2, 9 A1, 10 A0, 11 I/O1, 12 I/O2, 13 I/O3, 15 I/O4, 16 I/O5, 17 I/O6, 18 I/O7, 19 I/O8, 20 !CS1, 21 A10, 22 !OE, 23 A11, 24 A9, 25 A8, 26 CS2, 27 !WE
part B pins: 14 GND (power), 28 VCC (power)

## 7165S
designator IC?, comment MEMORY
OC_FARNELL: unknown; OC_NEWARK: unknown
footprint SO28-3
part A pins: 1 !RESET, 2 A12, 3 A7, 4 A6, 5 A5, 6 A4, 7 A3, 8 A2, 9 A1, 10 A0, 11 I/O1, 12 I/O2, 13 I/O3, 15 I/O4, 16 I/O5, 17 I/O6, 18 I/O7, 19 I/O8, 20 !CS1, 21 A10, 22 !OE, 23 A11, 24 A9, 25 A8, 26 CS2, 27 !WE
part B pins: 14 GND (power), 28 VCC (power)

## 7174P
designator IC?, comment MEMORY
OC_FARNELL: unknown; OC_NEWARK: unknown
footprint DIL28-6
part A pins: 1 !RESET, 2 A12, 3 A7, 4 A6, 5 A5, 6 A4, 7 A3, 8 A2, 9 A1, 10 A0, 11 I/O1, 12 I/O2, 13 I/O3, 15 I/O4, 16 I/O5, 17 I/O6, 18 I/O7, 19 I/O8, 20 !CS, 21 A10, 22 !OE, 23 A11, 24 A9, 25 A8, 26 MATCH (out), 27 !WE
part B pins: 14 GND (power), 28 VCC (power)

## 7174P6
designator IC?, comment MEMORY
OC_FARNELL: unknown; OC_NEWARK: unknown
footprint DIL28-3
part A pins: 1 !RESET, 2 A12, 3 A7, 4 A6, 5 A5, 6 A4, 7 A3, 8 A2, 9 A1, 10 A0, 11 I/O1, 12 I/O2, 13 I/O3, 15 I/O4, 16 I/O5, 17 I/O6, 18 I/O7, 19 I/O8, 20 !CS, 21 A10, 22 !OE, 23 A11, 24 A9, 25 A8, 26 MATCH (out), 27 !WE
part B pins: 14 GND (power), 28 VCC (power)

## 7174S
designator IC?, comment MEMORY
OC_FARNELL: unknown; OC_NEWARK: unknown
footprint SO28-3
part A pins: 1 !RESET, 2 A12, 3 A7, 4 A6, 5 A5, 6 A4, 7 A3, 8 A2, 9 A1, 10 A0, 11 I/O1, 12 I/O2, 13 I/O3, 15 I/O4, 16 I/O5, 17 I/O6, 18 I/O7, 19 I/O8, 20 !CS, 21 A10, 22 !OE, 23 A11, 24 A9, 25 A8, 26 MATCH (out), 27 !WE
part B pins: 14 GND (power), 28 VCC (power)

## 7186P
designator IC?, comment MEMORY
OC_FARNELL: unknown; OC_NEWARK: unknown
footprint DIL40
part A pins: 2 !CE, 3 I/O15, 4 I/O14, 5 I/O13, 6 I/O12, 7 I/O11, 8 I/O10, 9 I/O9, 10 I/O8, 12 I/O7, 13 I/O6, 14 I/O5, 15 I/O4, 16 I/O3, 17 I/O2, 18 I/O1, 19 I/O0, 20 !OE, 21 A0, 22 A1, 23 A2, 24 A3, 25 A4, 26 A5, 27 A6, 28 A7, 29 A8, 31 A9, 32 A10, 33 A11, 34 NC, 35 NC@1, 36 NC@2, 37 !LB, 38 !UB, 39 !WE
part B pins: 1 VCC (power), 11 GND (power), 30 GND@1 (power), 40 VCC@1 (power)

## 7188P
designator IC?, comment MEMORY
OC_FARNELL: unknown; OC_NEWARK: unknown
footprint DIL22-3
part A pins: 1 A0, 2 A1, 3 A2, 4 A3, 5 A4, 6 A5, 7 A6, 8 A7, 9 A8, 10 !CS, 12 !WE, 13 I/O1, 14 I/O2, 15 I/O3, 16 I/O4, 17 A9, 18 A10, 19 A11, 20 A12, 21 A13
part B pins: 11 GND (power), 22 VCC (power)

## 7188S
designator IC?, comment MEMORY
OC_FARNELL: unknown; OC_NEWARK: unknown
footprint SO24-2
part A pins: 1 A0, 2 A1, 3 A2, 4 A3, 5 A4, 6 A5, 7 A6, 8 A7, 9 A8, 10 !CS, 11 NC, 13 !WE, 14 I/O1, 15 I/O2, 16 I/O3, 17 I/O4, 18 NC@1, 19 A9, 20 A10, 21 A11, 22 A12, 23 A13
part B pins: 12 GND (power), 24 VCC (power)

## 7198L
designator IC?, comment MEMORY
OC_FARNELL: unknown; OC_NEWARK: unknown
footprint L28-2
part A pins: 1 NC, 2 NC@1, 3 A0, 4 A1, 5 A2, 6 A3, 7 A4, 8 A5, 9 A6, 10 A7, 11 A8, 12 !CS1, 13 !OE, 15 !CS2, 16 !WE, 17 I/O1, 18 I/O2, 19 I/O3, 20 I/O4, 21 A9, 22 A10, 23 A11, 24 A12, 25 A13, 26 NC@2, 27 NC@3
part B pins: 14 GND (power), 28 VCC (power)

## 7198P
designator IC?, comment MEMORY
OC_FARNELL: unknown; OC_NEWARK: unknown
footprint DIL24-6
part A pins: 1 A0, 2 A1, 3 A2, 4 A3, 5 A4, 6 A5, 7 A6, 8 A7, 9 A8, 10 !CS1, 11 !OE, 13 !WE, 14 I/O1, 15 I/O2, 16 I/O3, 17 I/O4, 18 !CS2, 19 A9, 20 A10, 21 A11, 22 A12, 23 A13
part B pins: 12 GND (power), 24 VCC (power)

## 7198S
designator IC?, comment MEMORY
OC_FARNELL: unknown; OC_NEWARK: unknown
footprint SO24-2
part A pins: 1 A0, 2 A1, 3 A2, 4 A3, 5 A4, 6 A5, 7 A6, 8 A7, 9 A8, 10 !CS1, 11 !OE, 13 !WE, 14 I/O1, 15 I/O2, 16 I/O3, 17 I/O4, 18 !CS2, 19 A9, 20 A10, 21 A11, 22 A12, 23 A13
part B pins: 12 GND (power), 24 VCC (power)

## 7202L
designator IC?, comment MEMORY
MPN: IDT7202LA35JG; OC_FARNELL: 1218006; OC_NEWARK: 24M2901
footprint L32-1
part A pins: 1 NC, 2 !W, 3 D8, 4 D3, 5 D2, 6 D1, 7 D0, 8 !XI, 9 !FF (out), 10 Q0 (out), 11 Q1 (out), 12 NC@1, 13 Q2 (out), 14 Q3 (out), 15 Q8 (out), 17 NC@2, 18 !R, 19 Q4 (out), 20 Q5 (out), 21 Q6 (out), 22 Q7 (out), 23 !XO!/!HF (out), 24 !EF (out), 25 !RS, 26 !FL!/!RT, 27 NC@3, 28 D7, 29 D6, 30 D5, 31 D4
part B pins: 16 GND (power), 32 VCC (power)

## 7202P
designator IC?, comment MEMORY
OC_FARNELL: unknown; OC_NEWARK: unknown
footprint DIL28-6
part A pins: 1 !W, 2 D8, 3 D3, 4 D2, 5 D1, 6 D0, 7 !XI, 8 !FF (out), 9 Q0 (out), 10 Q1 (out), 11 Q2 (out), 12 Q3 (out), 13 Q8 (out), 15 !R, 16 Q4 (out), 17 Q5 (out), 18 Q6 (out), 19 Q7 (out), 20 !XO!/!HF (out), 21 !EF (out), 22 !RS, 23 !FL!/!RT, 24 D7, 25 D6, 26 D5, 27 D4
part B pins: 14 GND (power), 28 VCC (power)

## 7203L
designator IC?, comment MEMORY
OC_FARNELL: unknown; OC_NEWARK: unknown
footprint L32-1
part A pins: 1 NC, 2 !W, 3 D8, 4 D3, 5 D2, 6 D1, 7 D0, 8 !XI, 9 !FF (out), 10 Q0 (out), 11 Q1 (out), 12 NC@1, 13 Q2 (out), 14 Q3 (out), 15 Q8 (out), 17 NC@2, 18 !R, 19 Q4 (out), 20 Q5 (out), 21 Q6 (out), 22 Q7 (out), 23 !XO!/!HF (out), 24 !EF (out), 25 !RS, 26 !FL!/!RT, 27 NC@3, 28 D7, 29 D6, 30 D5, 31 D4
part B pins: 16 GND (power), 32 VCC (power)

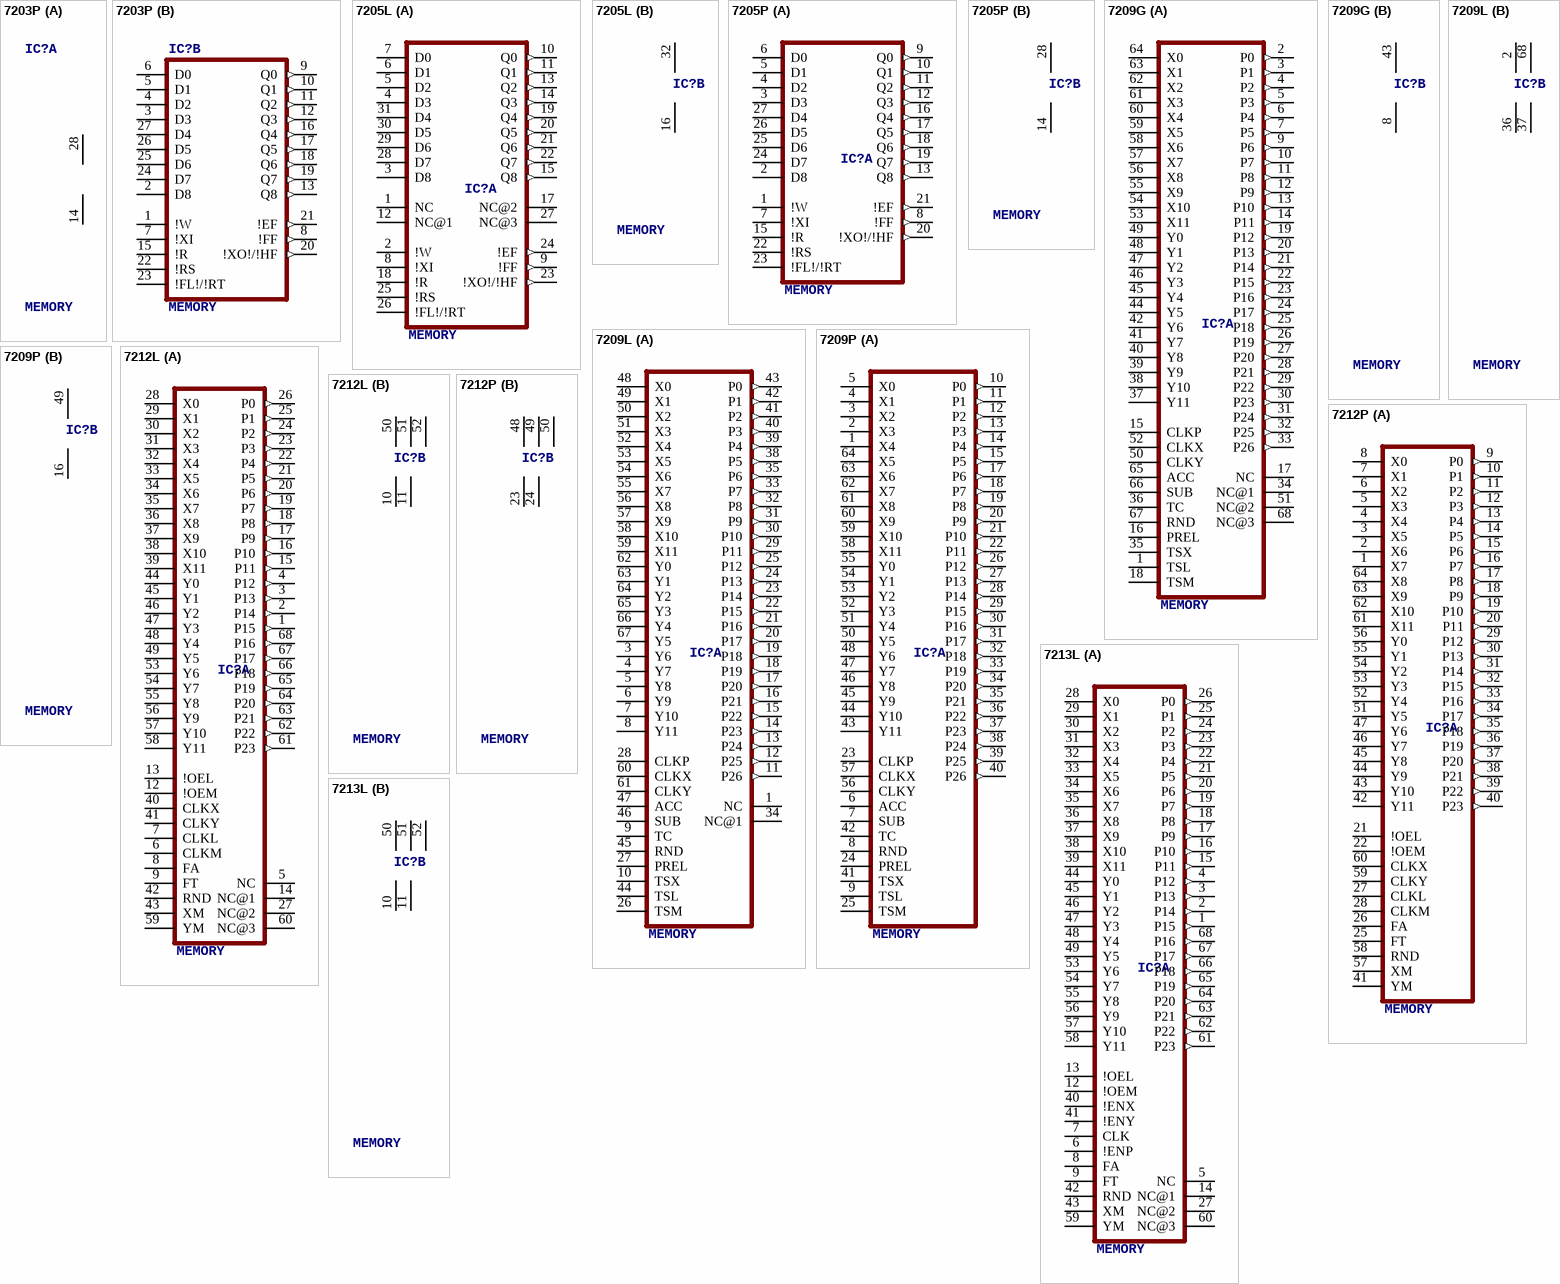
[diagram p15: symbols 7203P to 7213L]

## 7203P
designator IC?, comment MEMORY
OC_FARNELL: unknown; OC_NEWARK: unknown
footprint DIL28-6
part A pins: 14 GND (power), 28 VCC (power)
part B pins: 1 !W, 2 D8, 3 D3, 4 D2, 5 D1, 6 D0, 7 !XI, 8 !FF (out), 9 Q0 (out), 10 Q1 (out), 11 Q2 (out), 12 Q3 (out), 13 Q8 (out), 15 !R, 16 Q4 (out), 17 Q5 (out), 18 Q6 (out), 19 Q7 (out), 20 !XO!/!HF (out), 21 !EF (out), 22 !RS, 23 !FL!/!RT, 24 D7, 25 D6, 26 D5, 27 D4

## 7205L
designator IC?, comment MEMORY
MPN: IDT7205L20JG; OC_FARNELL: 1217997; OC_NEWARK: 34M6450
footprint L32-1
part A pins: 1 NC, 2 !W, 3 D8, 4 D3, 5 D2, 6 D1, 7 D0, 8 !XI, 9 !FF (out), 10 Q0 (out), 11 Q1 (out), 12 NC@1, 13 Q2 (out), 14 Q3 (out), 15 Q8 (out), 17 NC@2, 18 !R, 19 Q4 (out), 20 Q5 (out), 21 Q6 (out), 22 Q7 (out), 23 !XO!/!HF (out), 24 !EF (out), 25 !RS, 26 !FL!/!RT, 27 NC@3, 28 D7, 29 D6, 30 D5, 31 D4
part B pins: 16 GND (power), 32 VCC (power)

## 7205P
designator IC?, comment MEMORY
OC_FARNELL: unknown; OC_NEWARK: unknown
footprint DIL28-6
part A pins: 1 !W, 2 D8, 3 D3, 4 D2, 5 D1, 6 D0, 7 !XI, 8 !FF (out), 9 Q0 (out), 10 Q1 (out), 11 Q2 (out), 12 Q3 (out), 13 Q8 (out), 15 !R, 16 Q4 (out), 17 Q5 (out), 18 Q6 (out), 19 Q7 (out), 20 !XO!/!HF (out), 21 !EF (out), 22 !RS, 23 !FL!/!RT, 24 D7, 25 D6, 26 D5, 27 D4
part B pins: 14 GND (power), 28 VCC (power)

## 7209G
designator IC?, comment MEMORY
OC_FARNELL: unknown; OC_NEWARK: unknown
footprint G68-1
part A pins: 1 TSL, 2 P0 (out), 3 P1 (out), 4 P2 (out), 5 P3 (out), 6 P4 (out), 7 P5 (out), 9 P6 (out), 10 P7 (out), 11 P8 (out), 12 P9 (out), 13 P10 (out), 14 P11 (out), 15 CLKP, 16 PREL, 17 NC, 18 TSM, 19 P12 (out), 20 P13 (out), 21 P14 (out), 22 P15 (out), 23 P16 (out), 24 P17 (out), 25 P18 (out), 26 P19 (out), 27 P20 (out), 28 P21 (out), 29 P22 (out), 30 P23 (out), 31 P24 (out), 32 P25 (out), 33 P26 (out), 34 NC@1, 35 TSX, 36 TC, 37 Y11, 38 Y10, 39 Y9, 40 Y8, 41 Y7, 42 Y6, 44 Y5, 45 Y4, 46 Y3, 47 Y2, 48 Y1, 49 Y0, 50 CLKY, 51 NC@2, 52 CLKX, 53 X11, 54 X10, 55 X9, 56 X8, 57 X7, 58 X6, 59 X5, 60 X4, 61 X3, 62 X2, 63 X1, 64 X0, 65 ACC, 66 SUB, 67 RND, 68 NC@3
part B pins: 8 GND (power), 43 VCC (power)

## 7209L
designator IC?, comment MEMORY
OC_FARNELL: unknown; OC_NEWARK: unknown
footprint L68-2
part A pins: 1 NC, 3 Y6, 4 Y7, 5 Y8, 6 Y9, 7 Y10, 8 Y11, 9 TC, 10 TSX, 11 P26 (out), 12 P25 (out), 13 P24 (out), 14 P23 (out), 15 P22 (out), 16 P21 (out), 17 P20 (out), 18 P19 (out), 19 P18 (out), 20 P17 (out), 21 P16 (out), 22 P15 (out), 23 P14 (out), 24 P13 (out), 25 P12 (out), 26 TSM, 27 PREL, 28 CLKP, 29 P11 (out), 30 P10 (out), 31 P9 (out), 32 P8 (out), 33 P7 (out), 34 NC@1, 35 P6 (out), 38 P5 (out), 39 P4 (out), 40 P3 (out), 41 P2 (out), 42 P1 (out), 43 P0 (out), 44 TSL, 45 RND, 46 SUB, 47 ACC, 48 X0, 49 X1, 50 X2, 51 X3, 52 X4, 53 X5, 54 X6, 55 X7, 56 X8, 57 X9, 58 X10, 59 X11, 60 CLKX, 61 CLKY, 62 Y0, 63 Y1, 64 Y2, 65 Y3, 66 Y4, 67 Y5
part B pins: 2 VCC (power), 36 GND (power), 37 GND@1 (power), 68 VCC@1 (power)

## 7209P
designator IC?, comment MEMORY
OC_FARNELL: unknown; OC_NEWARK: unknown
footprint C64-1
part A pins: 1 X4, 2 X3, 3 X2, 4 X1, 5 X0, 6 ACC, 7 SUB, 8 RND, 9 TSL, 10 P0 (out), 11 P1 (out), 12 P2 (out), 13 P3 (out), 14 P4 (out), 15 P5 (out), 17 P6 (out), 18 P7 (out), 19 P8 (out), 20 P9 (out), 21 P10 (out), 22 P11 (out), 23 CLKP, 24 PREL, 25 TSM, 26 P12 (out), 27 P13 (out), 28 P14 (out), 29 P15 (out), 30 P16 (out), 31 P17 (out), 32 P18 (out), 33 P19 (out), 34 P20 (out), 35 P21 (out), 36 P22 (out), 37 P23 (out), 38 P24 (out), 39 P25 (out), 40 P26 (out), 41 TSX, 42 TC, 43 Y11, 44 Y10, 45 Y9, 46 Y8, 47 Y7, 48 Y6, 50 Y5, 51 Y4, 52 Y3, 53 Y2, 54 Y1, 55 Y0, 56 CLKY, 57 CLKX, 58 X11, 59 X10, 60 X9, 61 X8, 62 X7, 63 X6, 64 X5
part B pins: 16 GND (power), 49 VCC (power)

## 7212L
designator IC?, comment MEMORY
OC_FARNELL: unknown; OC_NEWARK: unknown
footprint L68-2
part A pins: 1 P15 (out), 2 P14 (out), 3 P13 (out), 4 P12 (out), 5 NC, 6 CLKM, 7 CLKL, 8 FA, 9 FT, 12 !OEM, 13 !OEL, 14 NC@1, 15 P11 (out), 16 P10 (out), 17 P9 (out), 18 P8 (out), 19 P7 (out), 20 P6 (out), 21 P5 (out), 22 P4 (out), 23 P3 (out), 24 P2 (out), 25 P1 (out), 26 P0 (out), 27 NC@2, 28 X0, 29 X1, 30 X2, 31 X3, 32 X4, 33 X5, 34 X6, 35 X7, 36 X8, 37 X9, 38 X10, 39 X11, 40 CLKX, 41 CLKY, 42 RND, 43 XM, 44 Y0, 45 Y1, 46 Y2, 47 Y3, 48 Y4, 49 Y5, 53 Y6, 54 Y7, 55 Y8, 56 Y9, 57 Y10, 58 Y11, 59 YM, 60 NC@3, 61 P23 (out), 62 P22 (out), 63 P21 (out), 64 P20 (out), 65 P19 (out), 66 P18 (out), 67 P17 (out), 68 P16 (out)
part B pins: 10 GND (power), 11 GND@1 (power), 50 VCC (power), 51 VCC@1 (power), 52 VCC@2 (power)

## 7212P
designator IC?, comment MEMORY
OC_FARNELL: unknown; OC_NEWARK: unknown
footprint C64-1
part A pins: 1 X7, 2 X6, 3 X5, 4 X4, 5 X3, 6 X2, 7 X1, 8 X0, 9 P0 (out), 10 P1 (out), 11 P2 (out), 12 P3 (out), 13 P4 (out), 14 P5 (out), 15 P6 (out), 16 P7 (out), 17 P8 (out), 18 P9 (out), 19 P10 (out), 20 P11 (out), 21 !OEL, 22 !OEM, 25 FT, 26 FA, 27 CLKL, 28 CLKM, 29 P12 (out), 30 P13 (out), 31 P14 (out), 32 P15 (out), 33 P16 (out), 34 P17 (out), 35 P18 (out), 36 P19 (out), 37 P20 (out), 38 P21 (out), 39 P22 (out), 40 P23 (out), 41 YM, 42 Y11, 43 Y10, 44 Y9, 45 Y8, 46 Y7, 47 Y6, 51 Y5, 52 Y4, 53 Y3, 54 Y2, 55 Y1, 56 Y0, 57 XM, 58 RND, 59 CLKY, 60 CLKX, 61 X11, 62 X10, 63 X9, 64 X8
part B pins: 23 GND (power), 24 GND@1 (power), 48 VCC (power), 49 VCC@1 (power), 50 VCC@2 (power)

## 7213L
designator IC?, comment MEMORY
OC_FARNELL: unknown; OC_NEWARK: unknown
footprint L68-2
part A pins: 1 P15 (out), 2 P14 (out), 3 P13 (out), 4 P12 (out), 5 NC, 6 !ENP, 7 CLK, 8 FA, 9 FT, 12 !OEM, 13 !OEL, 14 NC@1, 15 P11 (out), 16 P10 (out), 17 P9 (out), 18 P8 (out), 19 P7 (out), 20 P6 (out), 21 P5 (out), 22 P4 (out), 23 P3 (out), 24 P2 (out), 25 P1 (out), 26 P0 (out), 27 NC@2, 28 X0, 29 X1, 30 X2, 31 X3, 32 X4, 33 X5, 34 X6, 35 X7, 36 X8, 37 X9, 38 X10, 39 X11, 40 !ENX, 41 !ENY, 42 RND, 43 XM, 44 Y0, 45 Y1, 46 Y2, 47 Y3, 48 Y4, 49 Y5, 53 Y6, 54 Y7, 55 Y8, 56 Y9, 57 Y10, 58 Y11, 59 YM, 60 NC@3, 61 P23 (out), 62 P22 (out), 63 P21 (out), 64 P20 (out), 65 P19 (out), 66 P18 (out), 67 P17 (out), 68 P16 (out)
part B pins: 10 GND (power), 11 GND@1 (power), 50 VCC (power), 51 VCC@1 (power), 52 VCC@2 (power)

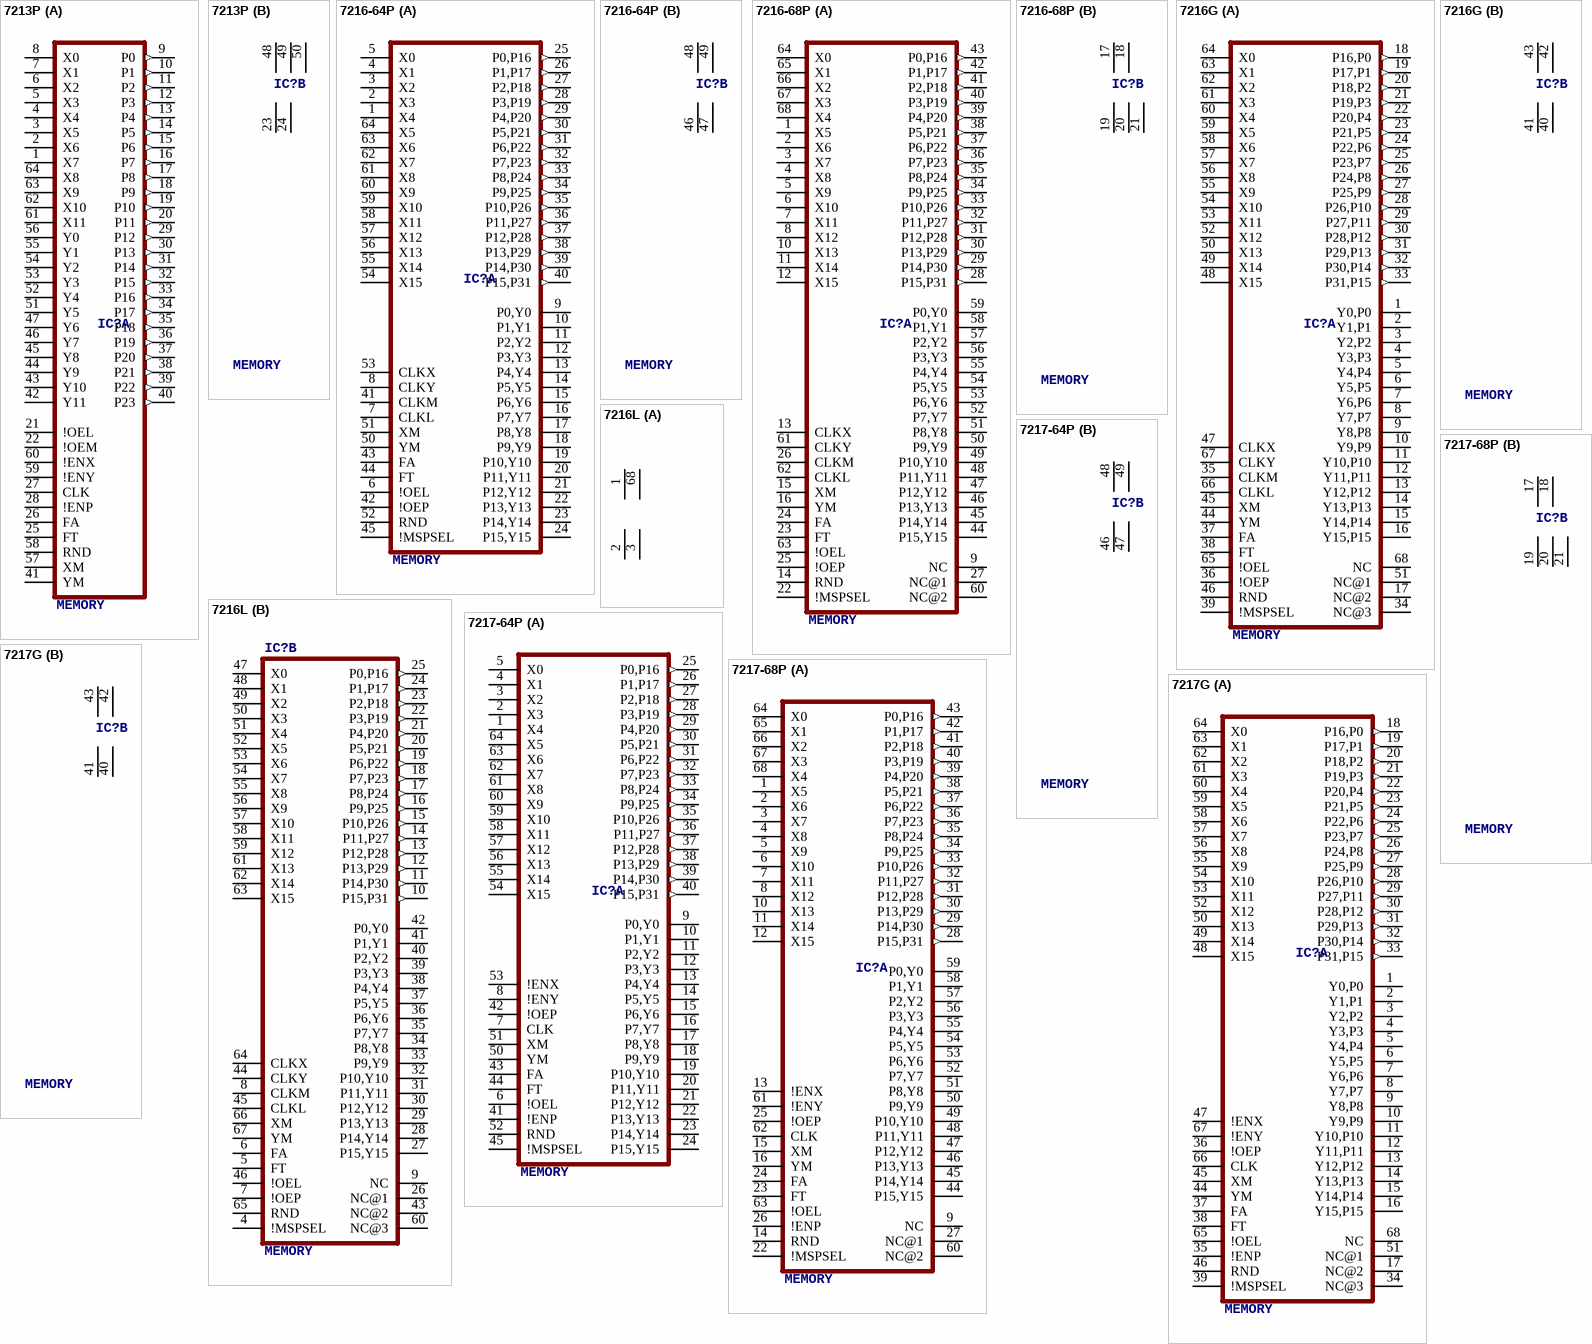
[diagram p16: symbols 7213P to 7217G]